# Altium integrated library STMicroelectronics STM32 F1.IntLib: 244 symbols (part 16 of 24)
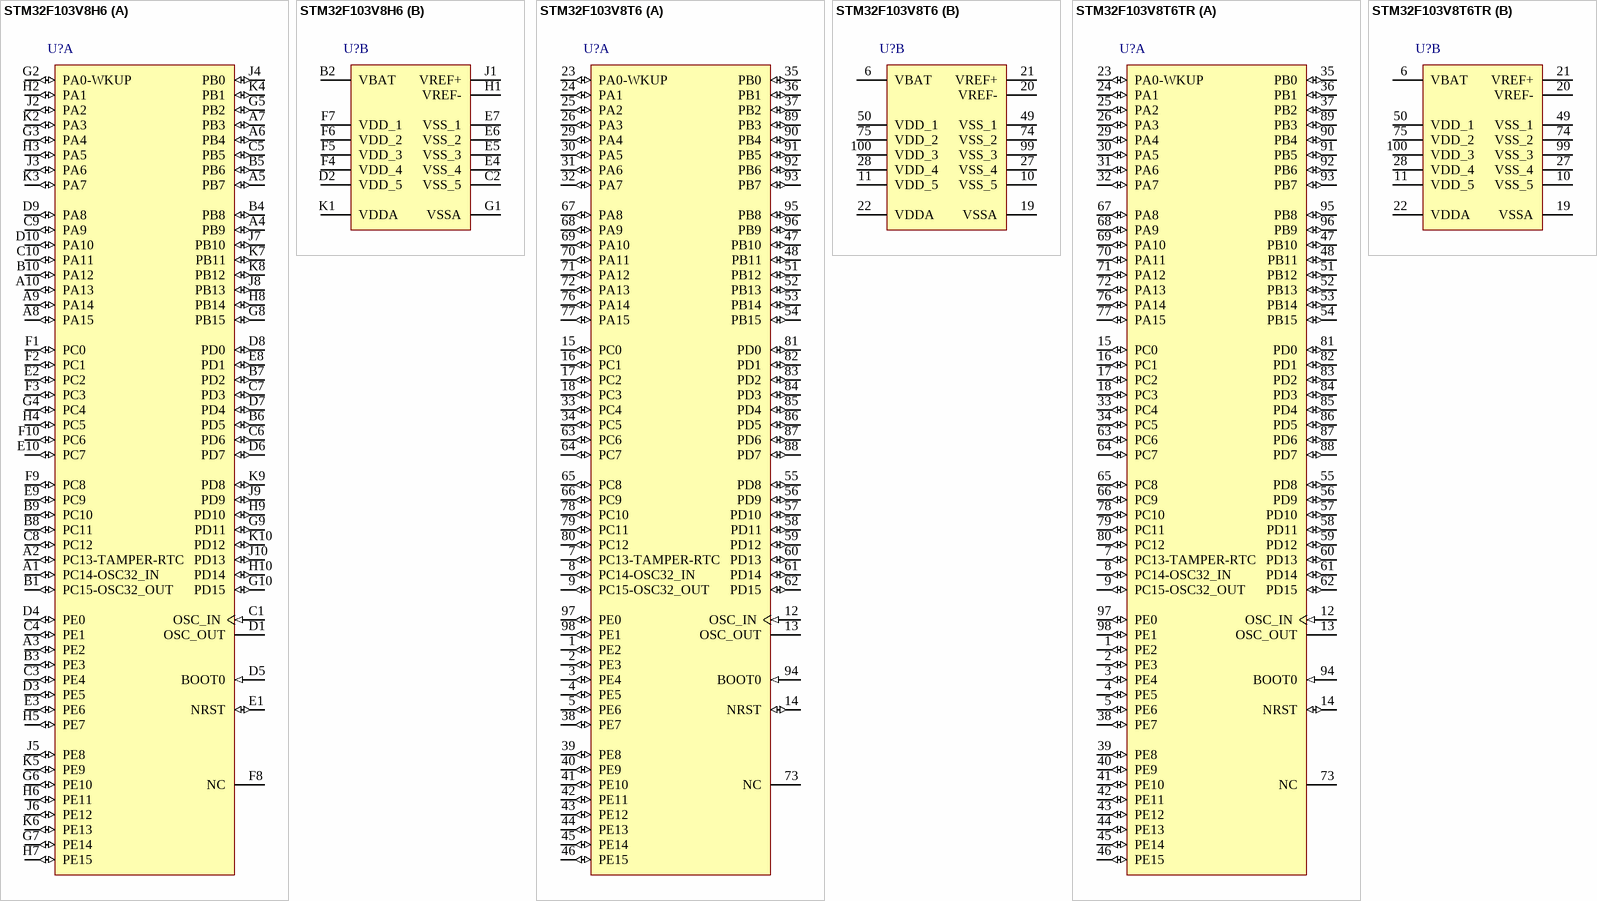
[diagram p57: symbols STM32F103V8H6 to STM32F103V8T6TR]

## STM32F103V8T6TR
designator U?
ARM Cortex-M3 32-bit MCU, 64 KB Flash, 20 KB Internal RAM, 80 I/Os, 100-pin LQFP, -40 to 85 degC, Tape and Reel; PartNumber: STM32F103V8T6TR; A/D Converter: 2x12-bit (16 channel); FLASH Size (Prog) (kB): 64; I/Os (High Current): 80; Internal RAM Size (kB): 20; Operating Frequency(F) (Processor speed) (MHz): 72; Supply Voltage(Vcc) min (V): 2; DatasheetVersion: Rev. 16; PackageVersion: Rev. 1, 06/2013; PackageReference: LQFP100; PackageDescription: 100-Pin Low Profile Quad Flat Package, 14 x 14 mm Body, 0.5 mm Pitch; Supplier 1: Digi-Key; Supplier Part Number 1: STM32F103V8T6TR-ND; Supplier 2: Newark; Supplier Part Number 2: 90R9227; Supplier 3: Mouser; Supplier Part Number 3: 511-STM32F103V8T6TR; Core: ARM Cortex-M3; Packing: Tape and Reel; Mounting Technology: Surface Mount; ComponentLink1Description: Manufacturer URL; ComponentLink1URL: http://www.st.com/web/en/home.html; ComponentLink2Description: Datasheet; ComponentLink2URL: http://www.st.com/st-web-ui/static/active/en/resource/technical/document/datasheet/CD00161566.pdf; ComponentLink3Description: Package Specification; ComponentLink3URL: http://www.st.com/st-web-ui/static/active/en/resource/technical/document/data_brief/DM00071938.pdf
footprint STM-LQFP100_N (Thin QFP, 100-Leads, Body 14x14mm, Pitch 0.5mm, IPC Medium Density)
footprint STM-LQFP100_L (Thin QFP, 100-Leads, Body 14x14mm, Pitch 0.5mm, IPC High Density)
footprint STM-LQFP100_M (Thin QFP, 100-Leads, Body 14x14mm, Pitch 0.5mm, IPC Low Density)
footprint STM-LQFP100_V (Thin QFP, 100-Leads, Body 14x14mm, Pitch 0.5mm, ST Recommended)
part A pins: 1 PE2 (io) "PE2/TRACECK", 2 PE3 (io) "PE3/TRACED0", 3 PE4 (io) "PE4/TRACED1", 4 PE5 (io) "PE5/TRACED2", 5 PE6 (io) "PE6/TRACED3", 7 PC13-TAMPER-RTC (io) "PC13-TAMPER-RTC/PC13/TAMPER-RTC", 8 PC14-OSC32_IN (io) "PC14-OSC32_IN/PC14/OSC32_IN", 9 PC15-OSC32_OUT (io) "PC15-OSC32_OUT/PC15/OSC32_OUT", 12 OSC_IN (in), 13 OSC_OUT, 14 NRST (io), 15 PC0 (io) "PC0/ADC12_IN10", 16 PC1 (io) "PC1/ADC12_IN11", 17 PC2 (io) "PC2/ADC12_IN12", 18 PC3 (io) "PC3/ADC12_IN13", 23 PA0-WKUP (io) "PA0-WKUP/PA0/WKUP/USART2_CTS/ADC12_IN0/TIM2_CH1_ETR", 24 PA1 (io) "PA1/USART2_RTS/ADC12_IN1/TIM2_CH2", 25 PA2 (io) "PA2/USART2_TX/ADC12_IN2/TIM2_CH3", 26 PA3 (io) "PA3/USART2_RX/ADC12_IN3/TIM2_CH4", 29 PA4 (io) "PA4/SPI1_NSS/USART2_CK/ADC12_IN4", 30 PA5 (io) "PA5/SPI1_SCK/ADC12_IN5", 31 PA6 (io) "PA6/SPI1_MISO/ADC12_IN6/TIM3_CH1/TIM1_BKIN", 32 PA7 (io) "PA7/SPI1_MOSI/ADC12_IN7/TIM3_CH2/TIM1_CH1N", 33 PC4 (io) "PC4/ADC12_IN14", 34 PC5 (io) "PC5/ADC12_IN15", 35 PB0 (io) "PB0/ADC12_IN8/TIM3_CH3/TIM1_CH2N", 36 PB1 (io) "PB1/ADC12_IN9/TIM3_CH4/TIM1_CH3N", 37 PB2 (io) "PB2/BOOT1", 38 PE7 (io) "PE7/TIM1_ETR", 39 PE8 (io) "PE8/TIM1_CH1N", 40 PE9 (io) "PE9/TIM1_CH1", 41 PE10 (io) "PE10/TIM1_CH2N", 42 PE11 (io) "PE11/TIM1_CH2", 43 PE12 (io) "PE12/TIM1_CH3N", 44 PE13 (io) "PE13/TIM1_CH3", 45 PE14 (io) "PE14/TIM1_CH4", 46 PE15 (io) "PE15/TIM1_BKIN", 47 PB10 (io) "PB10/I2C2_SCL/USART3_TX/TIM2_CH3", 48 PB11 (io) "PB11/I2C2_SDA/USART3_RX/TIM2_CH4", 51 PB12 (io) "PB12/SPI2_NSS/I2C2_SMBAl/USART3_CK/TIM1_BKIN", 52 PB13 (io) "PB13/SPI2_SCK/USART3_CTS/TIM1_CH1N", 53 PB14 (io) "PB14/SPI2_MISO/USART3_RTS/TIM1_CH2N", 54 PB15 (io) "PB15/SPI2_MOSI/TIM1_CH3N", 55 PD8 (io) "PD8/USART3_TX", 56 PD9 (io) "PD9/USART3_RX", 57 PD10 (io) "PD10/USART3_CK", 58 PD11 (io) "PD11/USART3_CTS", 59 PD12 (io) "PD12/TIM4_CH1/USART3_RTS", 60 PD13 (io) "PD13/TIM4_CH2", 61 PD14 (io) "PD14/TIM4_CH3", 62 PD15 (io) "PD15/TIM4_CH4", 63 PC6 (io) "PC6/TIM3_CH1", 64 PC7 (io) "PC7/TIM3_CH2", 65 PC8 (io) "PC8/TIM3_CH3", 66 PC9 (io) "PC9/TIM3_CH4", 67 PA8 (io) "PA8/USART1_CK/TIM1_CH1/MCO", 68 PA9 (io) "PA9/USART1_TX/TIM1_CH2", 69 PA10 (io) "PA10/USART1_RX/TIM1_CH3", 70 PA11 (io) "PA11/USART1_CTS/CANRX/USBDM/TIM1_CH4", 71 PA12 (io) "PA12/USART1_RTS/CANTX/USBDP/TIM1_ETR", 72 PA13 (io) "PA13/JTMS/SWDIO", 73 NC, 76 PA14 (io) "PA14/JTCK/SWCLK", 77 PA15 (io) "PA15/JTDI/TIM2_CH1_ETR/SPI1_NSS", 78 PC10 (io) "PC10/USART3_TX", 79 PC11 (io) "PC11/USART3_RX", 80 PC12 (io) "PC12/USART3_CK", 81 PD0 (io) "PD0/CANRX", 82 PD1 (io) "PD1/CANTX", 83 PD2 (io) "PD2/TIM3_ETR", 84 PD3 (io) "PD3/USART2_CTS", 85 PD4 (io) "PD4/USART2_RTS", 86 PD5 (io) "PD5/USART2_TX", 87 PD6 (io) "PD6/USART2_RX", 88 PD7 (io) "PD7/USART2_CK", 89 PB3 (io) "PB3/JTDO/TIM2_CH2/TRACESWO/SPI1_SCK", 90 PB4 (io) "PB4/NJTRST/TIM3_CH1/SPI1_MISO", 91 PB5 (io) "PB5/I2C1_SMBAI/TIM3_CH2/SPI1_MOSI", 92 PB6 (io) "PB6/I2C1_SCL/TIM4_CH1/USART1_TX", 93 PB7 (io) "PB7/I2C1_SDA/TIM4_CH2/USART1_RX", 94 BOOT0 (in), 95 PB8 (io) "PB8/TIM4_CH3/I2C1_SCL/CANRX", 96 PB9 (io) "PB9/TIM4_CH4/I2C1_SDA/CANTX", 97 PE0 (io) "PE0/TIM4_ETR", 98 PE1 (io)
part B pins: 6 VBAT (power), 10 VSS_5 (power), 11 VDD_5 (power), 19 VSSA (power), 20 VREF- (power), 21 VREF+ (power), 22 VDDA (power), 27 VSS_4 (power), 28 VDD_4 (power), 49 VSS_1 (power), 50 VDD_1 (power), 74 VSS_2 (power), 75 VDD_2 (power), 99 VSS_3 (power), 100 VDD_3 (power)

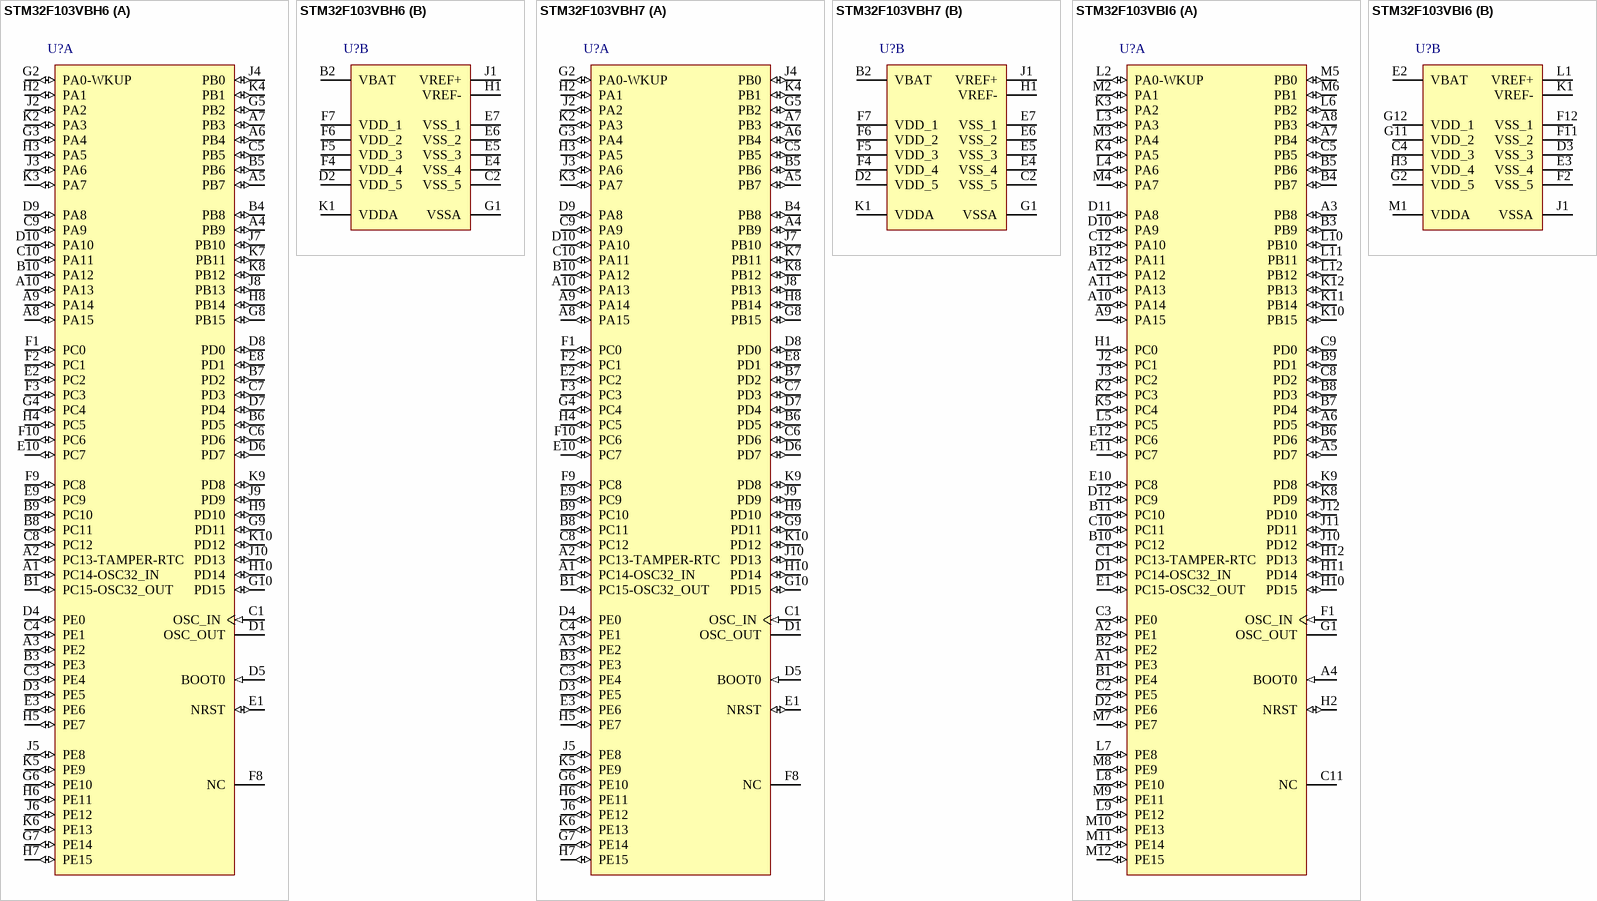
[diagram p25: symbols STM32F103VBH6 to STM32F103VBI6]

## STM32F103VBH6
designator U?
ARM Cortex-M3 32-bit MCU, 128 KB Flash, 20 KB Internal RAM, 80 I/Os, 100-pin LFBGA, -40 to 85 degC, Tray; PartNumber: STM32F103VBH6; A/D Converter: 2x12-bit (16 channel); FLASH Size (Prog) (kB): 128; I/Os (High Current): 80; Internal RAM Size (kB): 20; Operating Frequency(F) (Processor speed) (MHz): 72; Supply Voltage(Vcc) min (V): 2; DatasheetVersion: Rev. 16; PackageVersion: Rev. 8, 04/2011; PackageReference: LFBGA100; PackageDescription: 100-Ball Low Profile Fine Pitch BGA, 10 x 10 x 1.7 mm Body, 0.8 mm Pitch; Supplier 1: Digi-Key; Supplier Part Number 1: 497-6069-ND; Supplier 2: Farnell; Supplier Part Number 2: 2333178; Supplier 3: Newark; Supplier Part Number 3: 99W9797; Supplier 4: Newark; Supplier Part Number 4: 57P1250; Supplier 5: Mouser; Supplier Part Number 5: 511-STM32F103VBH6; Core: ARM Cortex-M3; Packing: Tray; Mounting Technology: Surface Mount; ComponentLink1Description: Manufacturer URL; ComponentLink1URL: http://www.st.com/web/en/home.html; ComponentLink2Description: Datasheet; ComponentLink2URL: http://www.st.com/st-web-ui/static/active/en/resource/technical/document/datasheet/CD00161566.pdf; ComponentLink3Description: Package Specification; ComponentLink3URL: http://www.st.com/st-web-ui/static/active/en/resource/technical/document/datasheet/CD00191185.pdf
footprint STM-LFBGA100 (BGA, 100-Balls, Body 10x10mm, Pitch 0.8mm)
part A pins: A1 PC14-OSC32_IN (io) "PC14-OSC32_IN/PC14/OSC32_IN", A2 PC13-TAMPER-RTC (io) "PC13-TAMPER-RTC/PC13/TAMPER-RTC", A3 PE2 (io) "PE2/TRACECK", A4 PB9 (io) "PB9/TIM4_CH4/I2C1_SDA/CANTX", A5 PB7 (io) "PB7/I2C1_SDA/TIM4_CH2/USART1_RX", A6 PB4 (io) "PB4/NJTRST/TIM3_CH1/SPI1_MISO", A7 PB3 (io) "PB3/JTDO/TIM2_CH2/TRACESWO/SPI1_SCK", A8 PA15 (io) "PA15/JTDI/TIM2_CH1_ETR/SPI1_NSS", A9 PA14 (io) "PA14/JTCK/SWCLK", A10 PA13 (io) "PA13/JTMS/SWDIO", B1 PC15-OSC32_OUT (io) "PC15-OSC32_OUT/PC15/OSC32_OUT", B3 PE3 (io) "PE3/TRACED0", B4 PB8 (io) "PB8/TIM4_CH3/I2C1_SCL/CANRX", B5 PB6 (io) "PB6/I2C1_SCL/TIM4_CH1/USART1_TX", B6 PD5 (io) "PD5/USART2_TX", B7 PD2 (io) "PD2/TIM3_ETR", B8 PC11 (io) "PC11/USART3_RX", B9 PC10 (io) "PC10/USART3_TX", B10 PA12 (io) "PA12/USART1_RTS/CANTX/USBDP/TIM1_ETR", C1 OSC_IN (in), C3 PE4 (io) "PE4/TRACED1", C4 PE1 (io), C5 PB5 (io) "PB5/I2C1_SMBAI/TIM3_CH2/SPI1_MOSI", C6 PD6 (io) "PD6/USART2_RX", C7 PD3 (io) "PD3/USART2_CTS", C8 PC12 (io) "PC12/USART3_CK", C9 PA9 (io) "PA9/USART1_TX/TIM1_CH2", C10 PA11 (io) "PA11/USART1_CTS/CANRX/USBDM/TIM1_CH4", D1 OSC_OUT, D3 PE5 (io) "PE5/TRACED2", D4 PE0 (io) "PE0/TIM4_ETR", D5 BOOT0 (in), D6 PD7 (io) "PD7/USART2_CK", D7 PD4 (io) "PD4/USART2_RTS", D8 PD0 (io) "PD0/CANRX", D9 PA8 (io) "PA8/USART1_CK/TIM1_CH1/MCO", D10 PA10 (io) "PA10/USART1_RX/TIM1_CH3", E1 NRST (io), E2 PC2 (io) "PC2/ADC12_IN12", E3 PE6 (io) "PE6/TRACED3", E8 PD1 (io) "PD1/CANTX", E9 PC9 (io) "PC9/TIM3_CH4", E10 PC7 (io) "PC7/TIM3_CH2", F1 PC0 (io) "PC0/ADC12_IN10", F2 PC1 (io) "PC1/ADC12_IN11", F3 PC3 (io) "PC3/ADC12_IN13", F8 NC, F9 PC8 (io) "PC8/TIM3_CH3", F10 PC6 (io) "PC6/TIM3_CH1", G2 PA0-WKUP (io) "PA0-WKUP/PA0/WKUP/USART2_CTS/ADC12_IN0/TIM2_CH1_ETR", G3 PA4 (io) "PA4/SPI1_NSS/USART2_CK/ADC12_IN4", G4 PC4 (io) "PC4/ADC12_IN14", G5 PB2 (io) "PB2/BOOT1", G6 PE10 (io) "PE10/TIM1_CH2N", G7 PE14 (io) "PE14/TIM1_CH4", G8 PB15 (io) "PB15/SPI2_MOSI/TIM1_CH3N", G9 PD11 (io) "PD11/USART3_CTS", G10 PD15 (io) "PD15/TIM4_CH4", H2 PA1 (io) "PA1/USART2_RTS/ADC12_IN1/TIM2_CH2", H3 PA5 (io) "PA5/SPI1_SCK/ADC12_IN5", H4 PC5 (io) "PC5/ADC12_IN15", H5 PE7 (io) "PE7/TIM1_ETR", H6 PE11 (io) "PE11/TIM1_CH2", H7 PE15 (io) "PE15/TIM1_BKIN", H8 PB14 (io) "PB14/SPI2_MISO/USART3_RTS/TIM1_CH2N", H9 PD10 (io) "PD10/USART3_CK", H10 PD14 (io) "PD14/TIM4_CH3", J2 PA2 (io) "PA2/USART2_TX/ADC12_IN2/TIM2_CH3", J3 PA6 (io) "PA6/SPI1_MISO/ADC12_IN6/TIM3_CH1/TIM1_BKIN", J4 PB0 (io) "PB0/ADC12_IN8/TIM3_CH3/TIM1_CH2N", J5 PE8 (io) "PE8/TIM1_CH1N", J6 PE12 (io) "PE12/TIM1_CH3N", J7 PB10 (io) "PB10/I2C2_SCL/USART3_TX/TIM2_CH3", J8 PB13 (io) "PB13/SPI2_SCK/USART3_CTS/TIM1_CH1N", J9 PD9 (io) "PD9/USART3_RX", J10 PD13 (io) "PD13/TIM4_CH2", K2 PA3 (io) "PA3/USART2_RX/ADC12_IN3/TIM2_CH4", K3 PA7 (io) "PA7/SPI1_MOSI/ADC12_IN7/TIM3_CH2/TIM1_CH1N", K4 PB1 (io) "PB1/ADC12_IN9/TIM3_CH4/TIM1_CH3N", K5 PE9 (io) "PE9/TIM1_CH1", K6 PE13 (io) "PE13/TIM1_CH3", K7 PB11 (io) "PB11/I2C2_SDA/USART3_RX/TIM2_CH4", K8 PB12 (io) "PB12/SPI2_NSS/I2C2_SMBAl/USART3_CK/TIM1_BKIN", K9 PD8 (io) "PD8/USART3_TX", K10 PD12 (io) "PD12/TIM4_CH1/USART3_RTS"
part B pins: B2 VBAT (power), C2 VSS_5 (power), D2 VDD_5 (power), E4 VSS_4 (power), E5 VSS_3 (power), E6 VSS_2 (power), E7 VSS_1 (power), F4 VDD_4 (power), F5 VDD_3 (power), F6 VDD_2 (power), F7 VDD_1 (power), G1 VSSA (power), H1 VREF- (power), J1 VREF+ (power), K1 VDDA (power)

## STM32F103VBH7
designator U?
ARM Cortex-M3 32-bit MCU, 128 KB Flash, 20 KB Internal RAM, 80 I/Os, 100-pin LFBGA, -40 to 105 degC, Tray; PartNumber: STM32F103VBH7; A/D Converter: 2x12-bit (16 channel); FLASH Size (Prog) (kB): 128; I/Os (High Current): 80; Internal RAM Size (kB): 20; Operating Frequency(F) (Processor speed) (MHz): 72; Supply Voltage(Vcc) min (V): 2; DatasheetVersion: Rev. 16; PackageVersion: Rev. 8, 04/2011; PackageReference: LFBGA100; PackageDescription: 100-Ball Low Profile Fine Pitch BGA, 10 x 10 x 1.7 mm Body, 0.8 mm Pitch; Supplier 1: Digi-Key; Supplier Part Number 1: 497-11535-ND; Supplier 2: Farnell; Supplier Part Number 2: 2333179; Supplier 3: Newark; Supplier Part Number 3: 99W9798; Supplier 4: Mouser; Supplier Part Number 4: 511-STM32F103VBH7; Core: ARM Cortex-M3; Packing: Tray; Mounting Technology: Surface Mount; ComponentLink1Description: Manufacturer URL; ComponentLink1URL: http://www.st.com/web/en/home.html; ComponentLink2Description: Datasheet; ComponentLink2URL: http://www.st.com/st-web-ui/static/active/en/resource/technical/document/datasheet/CD00161566.pdf; ComponentLink3Description: Package Specification; ComponentLink3URL: http://www.st.com/st-web-ui/static/active/en/resource/technical/document/datasheet/CD00191185.pdf
footprint STM-LFBGA100 (BGA, 100-Balls, Body 10x10mm, Pitch 0.8mm)
part A pins: A1 PC14-OSC32_IN (io) "PC14-OSC32_IN/PC14/OSC32_IN", A2 PC13-TAMPER-RTC (io) "PC13-TAMPER-RTC/PC13/TAMPER-RTC", A3 PE2 (io) "PE2/TRACECK", A4 PB9 (io) "PB9/TIM4_CH4/I2C1_SDA/CANTX", A5 PB7 (io) "PB7/I2C1_SDA/TIM4_CH2/USART1_RX", A6 PB4 (io) "PB4/NJTRST/TIM3_CH1/SPI1_MISO", A7 PB3 (io) "PB3/JTDO/TIM2_CH2/TRACESWO/SPI1_SCK", A8 PA15 (io) "PA15/JTDI/TIM2_CH1_ETR/SPI1_NSS", A9 PA14 (io) "PA14/JTCK/SWCLK", A10 PA13 (io) "PA13/JTMS/SWDIO", B1 PC15-OSC32_OUT (io) "PC15-OSC32_OUT/PC15/OSC32_OUT", B3 PE3 (io) "PE3/TRACED0", B4 PB8 (io) "PB8/TIM4_CH3/I2C1_SCL/CANRX", B5 PB6 (io) "PB6/I2C1_SCL/TIM4_CH1/USART1_TX", B6 PD5 (io) "PD5/USART2_TX", B7 PD2 (io) "PD2/TIM3_ETR", B8 PC11 (io) "PC11/USART3_RX", B9 PC10 (io) "PC10/USART3_TX", B10 PA12 (io) "PA12/USART1_RTS/CANTX/USBDP/TIM1_ETR", C1 OSC_IN (in), C3 PE4 (io) "PE4/TRACED1", C4 PE1 (io), C5 PB5 (io) "PB5/I2C1_SMBAI/TIM3_CH2/SPI1_MOSI", C6 PD6 (io) "PD6/USART2_RX", C7 PD3 (io) "PD3/USART2_CTS", C8 PC12 (io) "PC12/USART3_CK", C9 PA9 (io) "PA9/USART1_TX/TIM1_CH2", C10 PA11 (io) "PA11/USART1_CTS/CANRX/USBDM/TIM1_CH4", D1 OSC_OUT, D3 PE5 (io) "PE5/TRACED2", D4 PE0 (io) "PE0/TIM4_ETR", D5 BOOT0 (in), D6 PD7 (io) "PD7/USART2_CK", D7 PD4 (io) "PD4/USART2_RTS", D8 PD0 (io) "PD0/CANRX", D9 PA8 (io) "PA8/USART1_CK/TIM1_CH1/MCO", D10 PA10 (io) "PA10/USART1_RX/TIM1_CH3", E1 NRST (io), E2 PC2 (io) "PC2/ADC12_IN12", E3 PE6 (io) "PE6/TRACED3", E8 PD1 (io) "PD1/CANTX", E9 PC9 (io) "PC9/TIM3_CH4", E10 PC7 (io) "PC7/TIM3_CH2", F1 PC0 (io) "PC0/ADC12_IN10", F2 PC1 (io) "PC1/ADC12_IN11", F3 PC3 (io) "PC3/ADC12_IN13", F8 NC, F9 PC8 (io) "PC8/TIM3_CH3", F10 PC6 (io) "PC6/TIM3_CH1", G2 PA0-WKUP (io) "PA0-WKUP/PA0/WKUP/USART2_CTS/ADC12_IN0/TIM2_CH1_ETR", G3 PA4 (io) "PA4/SPI1_NSS/USART2_CK/ADC12_IN4", G4 PC4 (io) "PC4/ADC12_IN14", G5 PB2 (io) "PB2/BOOT1", G6 PE10 (io) "PE10/TIM1_CH2N", G7 PE14 (io) "PE14/TIM1_CH4", G8 PB15 (io) "PB15/SPI2_MOSI/TIM1_CH3N", G9 PD11 (io) "PD11/USART3_CTS", G10 PD15 (io) "PD15/TIM4_CH4", H2 PA1 (io) "PA1/USART2_RTS/ADC12_IN1/TIM2_CH2", H3 PA5 (io) "PA5/SPI1_SCK/ADC12_IN5", H4 PC5 (io) "PC5/ADC12_IN15", H5 PE7 (io) "PE7/TIM1_ETR", H6 PE11 (io) "PE11/TIM1_CH2", H7 PE15 (io) "PE15/TIM1_BKIN", H8 PB14 (io) "PB14/SPI2_MISO/USART3_RTS/TIM1_CH2N", H9 PD10 (io) "PD10/USART3_CK", H10 PD14 (io) "PD14/TIM4_CH3", J2 PA2 (io) "PA2/USART2_TX/ADC12_IN2/TIM2_CH3", J3 PA6 (io) "PA6/SPI1_MISO/ADC12_IN6/TIM3_CH1/TIM1_BKIN", J4 PB0 (io) "PB0/ADC12_IN8/TIM3_CH3/TIM1_CH2N", J5 PE8 (io) "PE8/TIM1_CH1N", J6 PE12 (io) "PE12/TIM1_CH3N", J7 PB10 (io) "PB10/I2C2_SCL/USART3_TX/TIM2_CH3", J8 PB13 (io) "PB13/SPI2_SCK/USART3_CTS/TIM1_CH1N", J9 PD9 (io) "PD9/USART3_RX", J10 PD13 (io) "PD13/TIM4_CH2", K2 PA3 (io) "PA3/USART2_RX/ADC12_IN3/TIM2_CH4", K3 PA7 (io) "PA7/SPI1_MOSI/ADC12_IN7/TIM3_CH2/TIM1_CH1N", K4 PB1 (io) "PB1/ADC12_IN9/TIM3_CH4/TIM1_CH3N", K5 PE9 (io) "PE9/TIM1_CH1", K6 PE13 (io) "PE13/TIM1_CH3", K7 PB11 (io) "PB11/I2C2_SDA/USART3_RX/TIM2_CH4", K8 PB12 (io) "PB12/SPI2_NSS/I2C2_SMBAl/USART3_CK/TIM1_BKIN", K9 PD8 (io) "PD8/USART3_TX", K10 PD12 (io) "PD12/TIM4_CH1/USART3_RTS"
part B pins: B2 VBAT (power), C2 VSS_5 (power), D2 VDD_5 (power), E4 VSS_4 (power), E5 VSS_3 (power), E6 VSS_2 (power), E7 VSS_1 (power), F4 VDD_4 (power), F5 VDD_3 (power), F6 VDD_2 (power), F7 VDD_1 (power), G1 VSSA (power), H1 VREF- (power), J1 VREF+ (power), K1 VDDA (power)

## STM32F103VBI6
designator U?
ARM Cortex-M3 32-bit MCU, 128 KB Flash, 20 KB Internal RAM, 80 I/Os, 100-pin UFBGA, -40 to 85 degC, Tray; PartNumber: STM32F103VBI6; A/D Converter: 2x12-bit (16 channel); FLASH Size (Prog) (kB): 128; I/Os (High Current): 80; Internal RAM Size (kB): 20; Operating Frequency(F) (Processor speed) (MHz): 72; Supply Voltage(Vcc) min (V): 2; DatasheetVersion: Rev. 16; PackageVersion: Rev. 8, 02/2013; PackageReference: UFBGA100; PackageDescription: 100-Ball Ultra Thin Fine Pitch Ball Grid Array, 7 x 7 x 0.6 mm Body, 0.5 mm Pitch; Supplier 1: Mouser; Supplier Part Number 1: N/A; Core: ARM Cortex-M3; Packing: Tray; Mounting Technology: Surface Mount; ComponentLink1Description: Manufacturer URL; ComponentLink1URL: http://www.st.com/web/en/home.html; ComponentLink2Description: Datasheet; ComponentLink2URL: http://www.st.com/st-web-ui/static/active/en/resource/technical/document/datasheet/CD00161566.pdf; ComponentLink3Description: Package Specification; ComponentLink3URL: http://www.st.com/st-web-ui/static/active/en/resource/technical/document/datasheet/CD00277537.pdf
footprint STM-UFBGA100 (BGA, 100-Balls, Body 7x7mm, Pitch 0.5mm)
part A pins: A1 PE3 (io) "PE3/TRACED0", A2 PE1 (io), A3 PB8 (io) "PB8/TIM4_CH3/I2C1_SCL/CANRX", A4 BOOT0 (in), A5 PD7 (io) "PD7/USART2_CK", A6 PD5 (io) "PD5/USART2_TX", A7 PB4 (io) "PB4/NJTRST/TIM3_CH1/SPI1_MISO", A8 PB3 (io) "PB3/JTDO/TIM2_CH2/TRACESWO/SPI1_SCK", A9 PA15 (io) "PA15/JTDI/TIM2_CH1_ETR/SPI1_NSS", A10 PA14 (io) "PA14/JTCK/SWCLK", A11 PA13 (io) "PA13/JTMS/SWDIO", A12 PA12 (io) "PA12/USART1_RTS/CANTX/USBDP/TIM1_ETR", B1 PE4 (io) "PE4/TRACED1", B2 PE2 (io) "PE2/TRACECK", B3 PB9 (io) "PB9/TIM4_CH4/I2C1_SDA/CANTX", B4 PB7 (io) "PB7/I2C1_SDA/TIM4_CH2/USART1_RX", B5 PB6 (io) "PB6/I2C1_SCL/TIM4_CH1/USART1_TX", B6 PD6 (io) "PD6/USART2_RX", B7 PD4 (io) "PD4/USART2_RTS", B8 PD3 (io) "PD3/USART2_CTS", B9 PD1 (io) "PD1/CANTX", B10 PC12 (io) "PC12/USART3_CK", B11 PC10 (io) "PC10/USART3_TX", B12 PA11 (io) "PA11/USART1_CTS/CANRX/USBDM/TIM1_CH4", C1 PC13-TAMPER-RTC (io) "PC13-TAMPER-RTC/PC13/TAMPER-RTC", C2 PE5 (io) "PE5/TRACED2", C3 PE0 (io) "PE0/TIM4_ETR", C5 PB5 (io) "PB5/I2C1_SMBAI/TIM3_CH2/SPI1_MOSI", C8 PD2 (io) "PD2/TIM3_ETR", C9 PD0 (io) "PD0/CANRX", C10 PC11 (io) "PC11/USART3_RX", C11 NC, C12 PA10 (io) "PA10/USART1_RX/TIM1_CH3", D1 PC14-OSC32_IN (io) "PC14-OSC32_IN/PC14/OSC32_IN", D2 PE6 (io) "PE6/TRACED3", D10 PA9 (io) "PA9/USART1_TX/TIM1_CH2", D11 PA8 (io) "PA8/USART1_CK/TIM1_CH1/MCO", D12 PC9 (io) "PC9/TIM3_CH4", E1 PC15-OSC32_OUT (io) "PC15-OSC32_OUT/PC15/OSC32_OUT", E10 PC8 (io) "PC8/TIM3_CH3", E11 PC7 (io) "PC7/TIM3_CH2", E12 PC6 (io) "PC6/TIM3_CH1", F1 OSC_IN (in), G1 OSC_OUT, H1 PC0 (io) "PC0/ADC12_IN10", H2 NRST (io), H10 PD15 (io) "PD15/TIM4_CH4", H11 PD14 (io) "PD14/TIM4_CH3", H12 PD13 (io) "PD13/TIM4_CH2", J2 PC1 (io) "PC1/ADC12_IN11", J3 PC2 (io) "PC2/ADC12_IN12", J10 PD12 (io) "PD12/TIM4_CH1/USART3_RTS", J11 PD11 (io) "PD11/USART3_CTS", J12 PD10 (io) "PD10/USART3_CK", K2 PC3 (io) "PC3/ADC12_IN13", K3 PA2 (io) "PA2/USART2_TX/ADC12_IN2/TIM2_CH3", K4 PA5 (io) "PA5/SPI1_SCK/ADC12_IN5", K5 PC4 (io) "PC4/ADC12_IN14", K8 PD9 (io) "PD9/USART3_RX", K9 PD8 (io) "PD8/USART3_TX", K10 PB15 (io) "PB15/SPI2_MOSI/TIM1_CH3N", K11 PB14 (io) "PB14/SPI2_MISO/USART3_RTS/TIM1_CH2N", K12 PB13 (io) "PB13/SPI2_SCK/USART3_CTS/TIM1_CH1N", L2 PA0-WKUP (io) "PA0-WKUP/PA0/WKUP/USART2_CTS/ADC12_IN0/TIM2_CH1_ETR", L3 PA3 (io) "PA3/USART2_RX/ADC12_IN3/TIM2_CH4", L4 PA6 (io) "PA6/SPI1_MISO/ADC12_IN6/TIM3_CH1/TIM1_BKIN", L5 PC5 (io) "PC5/ADC12_IN15", L6 PB2 (io) "PB2/BOOT1", L7 PE8 (io) "PE8/TIM1_CH1N", L8 PE10 (io) "PE10/TIM1_CH2N", L9 PE12 (io) "PE12/TIM1_CH3N", L10 PB10 (io) "PB10/I2C2_SCL/USART3_TX/TIM2_CH3", L11 PB11 (io) "PB11/I2C2_SDA/USART3_RX/TIM2_CH4", L12 PB12 (io) "PB12/SPI2_NSS/I2C2_SMBAl/USART3_CK/TIM1_BKIN", M2 PA1 (io) "PA1/USART2_RTS/ADC12_IN1/TIM2_CH2", M3 PA4 (io) "PA4/SPI1_NSS/USART2_CK/ADC12_IN4", M4 PA7 (io) "PA7/SPI1_MOSI/ADC12_IN7/TIM3_CH2/TIM1_CH1N", M5 PB0 (io) "PB0/ADC12_IN8/TIM3_CH3/TIM1_CH2N", M6 PB1 (io) "PB1/ADC12_IN9/TIM3_CH4/TIM1_CH3N", M7 PE7 (io) "PE7/TIM1_ETR", M8 PE9 (io) "PE9/TIM1_CH1", M9 PE11 (io) "PE11/TIM1_CH2", M10 PE13 (io) "PE13/TIM1_CH3", M11 PE14 (io) "PE14/TIM1_CH4", M12 PE15 (io) "PE15/TIM1_BKIN"
part B pins: C4 VDD_3 (power), D3 VSS_3 (power), E2 VBAT (power), E3 VSS_4 (power), F2 VSS_5 (power), F11 VSS_2 (power), F12 VSS_1 (power), G2 VDD_5 (power), G11 VDD_2 (power), G12 VDD_1 (power), H3 VDD_4 (power), J1 VSSA (power), K1 VREF- (power), L1 VREF+ (power), M1 VDDA (power)

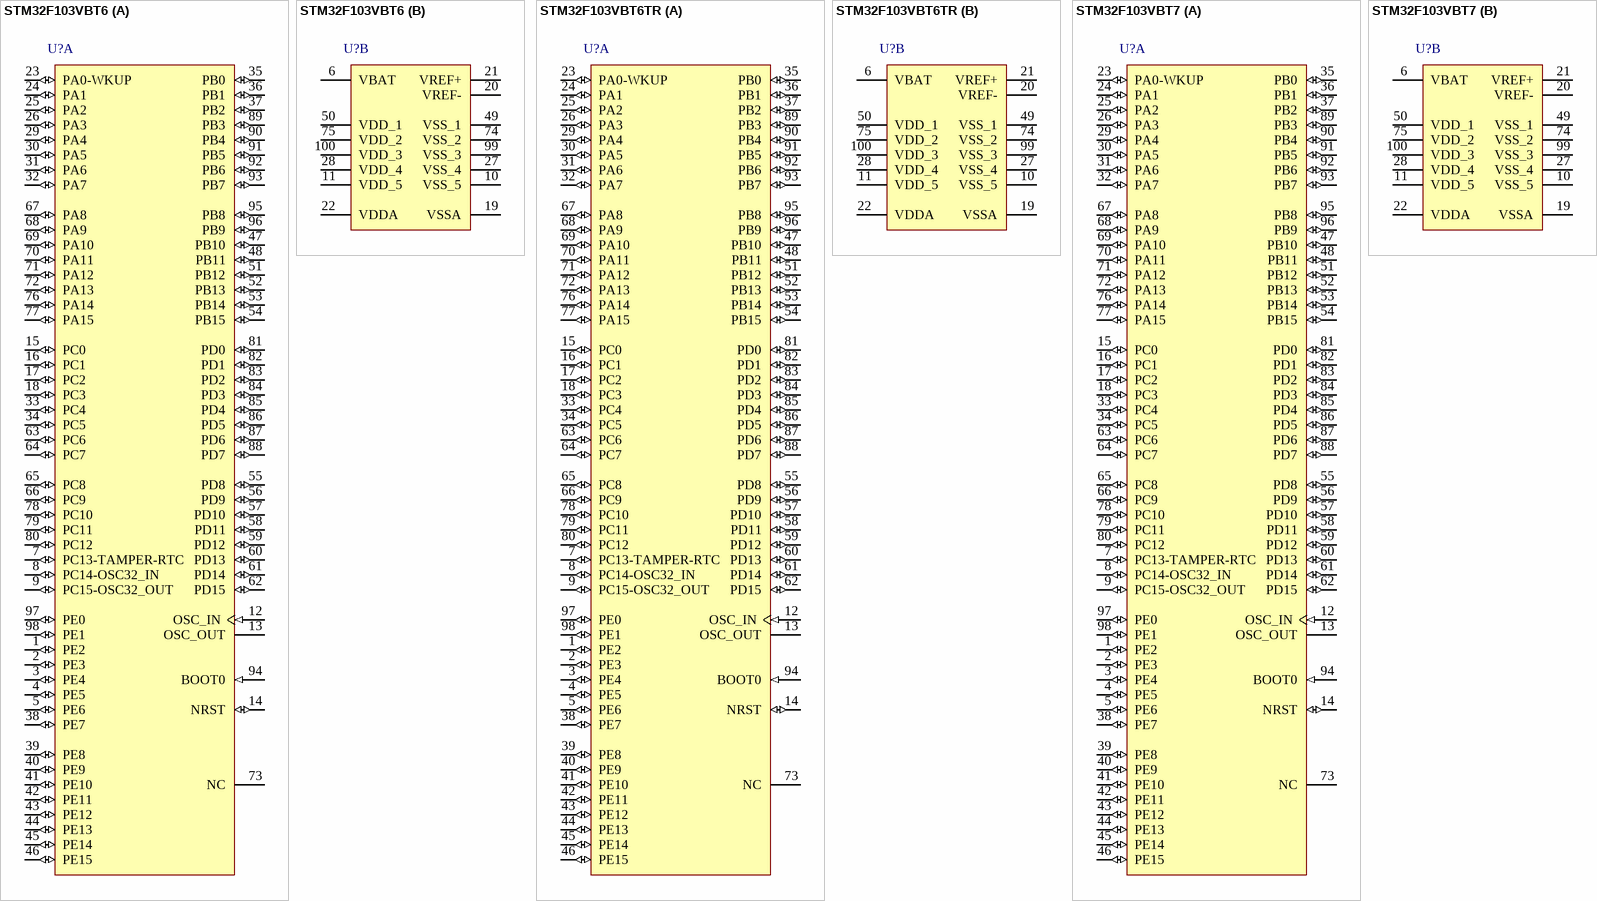
[diagram p26: symbols STM32F103VBT6 to STM32F103VBT7]

## STM32F103VBT6
designator U?
ARM Cortex-M3 32-bit MCU, 128 KB Flash, 20 KB Internal RAM, 80 I/Os, 100-pin LQFP, -40 to 85 degC, Tray; PartNumber: STM32F103VBT6; A/D Converter: 2x12-bit (16 channel); FLASH Size (Prog) (kB): 128; I/Os (High Current): 80; Internal RAM Size (kB): 20; Operating Frequency(F) (Processor speed) (MHz): 72; Supply Voltage(Vcc) min (V): 2; DatasheetVersion: Rev. 16; PackageVersion: Rev. 1, 06/2013; PackageReference: LQFP100; PackageDescription: 100-Pin Low Profile Quad Flat Package, 14 x 14 mm Body, 0.5 mm Pitch; Supplier 1: Digi-Key; Supplier Part Number 1: 497-6070-ND; Supplier 2: Farnell; Supplier Part Number 2: 1447641; Supplier 3: Newark; Supplier Part Number 3: 57P1252; Supplier 4: Mouser; Supplier Part Number 4: 511-STM32F103VBT6; Core: ARM Cortex-M3; Packing: Tray; Mounting Technology: Surface Mount; ComponentLink1Description: Manufacturer URL; ComponentLink1URL: http://www.st.com/web/en/home.html; ComponentLink2Description: Datasheet; ComponentLink2URL: http://www.st.com/st-web-ui/static/active/en/resource/technical/document/datasheet/CD00161566.pdf; ComponentLink3Description: Package Specification; ComponentLink3URL: http://www.st.com/st-web-ui/static/active/en/resource/technical/document/data_brief/DM00071938.pdf
footprint STM-LQFP100_N (Thin QFP, 100-Leads, Body 14x14mm, Pitch 0.5mm, IPC Medium Density)
footprint STM-LQFP100_L (Thin QFP, 100-Leads, Body 14x14mm, Pitch 0.5mm, IPC High Density)
footprint STM-LQFP100_M (Thin QFP, 100-Leads, Body 14x14mm, Pitch 0.5mm, IPC Low Density)
footprint STM-LQFP100_V (Thin QFP, 100-Leads, Body 14x14mm, Pitch 0.5mm, ST Recommended)
part A pins: 1 PE2 (io) "PE2/TRACECK", 2 PE3 (io) "PE3/TRACED0", 3 PE4 (io) "PE4/TRACED1", 4 PE5 (io) "PE5/TRACED2", 5 PE6 (io) "PE6/TRACED3", 7 PC13-TAMPER-RTC (io) "PC13-TAMPER-RTC/PC13/TAMPER-RTC", 8 PC14-OSC32_IN (io) "PC14-OSC32_IN/PC14/OSC32_IN", 9 PC15-OSC32_OUT (io) "PC15-OSC32_OUT/PC15/OSC32_OUT", 12 OSC_IN (in), 13 OSC_OUT, 14 NRST (io), 15 PC0 (io) "PC0/ADC12_IN10", 16 PC1 (io) "PC1/ADC12_IN11", 17 PC2 (io) "PC2/ADC12_IN12", 18 PC3 (io) "PC3/ADC12_IN13", 23 PA0-WKUP (io) "PA0-WKUP/PA0/WKUP/USART2_CTS/ADC12_IN0/TIM2_CH1_ETR", 24 PA1 (io) "PA1/USART2_RTS/ADC12_IN1/TIM2_CH2", 25 PA2 (io) "PA2/USART2_TX/ADC12_IN2/TIM2_CH3", 26 PA3 (io) "PA3/USART2_RX/ADC12_IN3/TIM2_CH4", 29 PA4 (io) "PA4/SPI1_NSS/USART2_CK/ADC12_IN4", 30 PA5 (io) "PA5/SPI1_SCK/ADC12_IN5", 31 PA6 (io) "PA6/SPI1_MISO/ADC12_IN6/TIM3_CH1/TIM1_BKIN", 32 PA7 (io) "PA7/SPI1_MOSI/ADC12_IN7/TIM3_CH2/TIM1_CH1N", 33 PC4 (io) "PC4/ADC12_IN14", 34 PC5 (io) "PC5/ADC12_IN15", 35 PB0 (io) "PB0/ADC12_IN8/TIM3_CH3/TIM1_CH2N", 36 PB1 (io) "PB1/ADC12_IN9/TIM3_CH4/TIM1_CH3N", 37 PB2 (io) "PB2/BOOT1", 38 PE7 (io) "PE7/TIM1_ETR", 39 PE8 (io) "PE8/TIM1_CH1N", 40 PE9 (io) "PE9/TIM1_CH1", 41 PE10 (io) "PE10/TIM1_CH2N", 42 PE11 (io) "PE11/TIM1_CH2", 43 PE12 (io) "PE12/TIM1_CH3N", 44 PE13 (io) "PE13/TIM1_CH3", 45 PE14 (io) "PE14/TIM1_CH4", 46 PE15 (io) "PE15/TIM1_BKIN", 47 PB10 (io) "PB10/I2C2_SCL/USART3_TX/TIM2_CH3", 48 PB11 (io) "PB11/I2C2_SDA/USART3_RX/TIM2_CH4", 51 PB12 (io) "PB12/SPI2_NSS/I2C2_SMBAl/USART3_CK/TIM1_BKIN", 52 PB13 (io) "PB13/SPI2_SCK/USART3_CTS/TIM1_CH1N", 53 PB14 (io) "PB14/SPI2_MISO/USART3_RTS/TIM1_CH2N", 54 PB15 (io) "PB15/SPI2_MOSI/TIM1_CH3N", 55 PD8 (io) "PD8/USART3_TX", 56 PD9 (io) "PD9/USART3_RX", 57 PD10 (io) "PD10/USART3_CK", 58 PD11 (io) "PD11/USART3_CTS", 59 PD12 (io) "PD12/TIM4_CH1/USART3_RTS", 60 PD13 (io) "PD13/TIM4_CH2", 61 PD14 (io) "PD14/TIM4_CH3", 62 PD15 (io) "PD15/TIM4_CH4", 63 PC6 (io) "PC6/TIM3_CH1", 64 PC7 (io) "PC7/TIM3_CH2", 65 PC8 (io) "PC8/TIM3_CH3", 66 PC9 (io) "PC9/TIM3_CH4", 67 PA8 (io) "PA8/USART1_CK/TIM1_CH1/MCO", 68 PA9 (io) "PA9/USART1_TX/TIM1_CH2", 69 PA10 (io) "PA10/USART1_RX/TIM1_CH3", 70 PA11 (io) "PA11/USART1_CTS/CANRX/USBDM/TIM1_CH4", 71 PA12 (io) "PA12/USART1_RTS/CANTX/USBDP/TIM1_ETR", 72 PA13 (io) "PA13/JTMS/SWDIO", 73 NC, 76 PA14 (io) "PA14/JTCK/SWCLK", 77 PA15 (io) "PA15/JTDI/TIM2_CH1_ETR/SPI1_NSS", 78 PC10 (io) "PC10/USART3_TX", 79 PC11 (io) "PC11/USART3_RX", 80 PC12 (io) "PC12/USART3_CK", 81 PD0 (io) "PD0/CANRX", 82 PD1 (io) "PD1/CANTX", 83 PD2 (io) "PD2/TIM3_ETR", 84 PD3 (io) "PD3/USART2_CTS", 85 PD4 (io) "PD4/USART2_RTS", 86 PD5 (io) "PD5/USART2_TX", 87 PD6 (io) "PD6/USART2_RX", 88 PD7 (io) "PD7/USART2_CK", 89 PB3 (io) "PB3/JTDO/TIM2_CH2/TRACESWO/SPI1_SCK", 90 PB4 (io) "PB4/NJTRST/TIM3_CH1/SPI1_MISO", 91 PB5 (io) "PB5/I2C1_SMBAI/TIM3_CH2/SPI1_MOSI", 92 PB6 (io) "PB6/I2C1_SCL/TIM4_CH1/USART1_TX", 93 PB7 (io) "PB7/I2C1_SDA/TIM4_CH2/USART1_RX", 94 BOOT0 (in), 95 PB8 (io) "PB8/TIM4_CH3/I2C1_SCL/CANRX", 96 PB9 (io) "PB9/TIM4_CH4/I2C1_SDA/CANTX", 97 PE0 (io) "PE0/TIM4_ETR", 98 PE1 (io)
part B pins: 6 VBAT (power), 10 VSS_5 (power), 11 VDD_5 (power), 19 VSSA (power), 20 VREF- (power), 21 VREF+ (power), 22 VDDA (power), 27 VSS_4 (power), 28 VDD_4 (power), 49 VSS_1 (power), 50 VDD_1 (power), 74 VSS_2 (power), 75 VDD_2 (power), 99 VSS_3 (power), 100 VDD_3 (power)

## STM32F103VBT6TR
designator U?
ARM Cortex-M3 32-bit MCU, 128 KB Flash, 20 KB Internal RAM, 80 I/Os, 100-pin LQFP, -40 to 85 degC, Tape and Reel; PartNumber: STM32F103VBT6TR; A/D Converter: 2x12-bit (16 channel); FLASH Size (Prog) (kB): 128; I/Os (High Current): 80; Internal RAM Size (kB): 20; Operating Frequency(F) (Processor speed) (MHz): 72; Supply Voltage(Vcc) min (V): 2; DatasheetVersion: Rev. 16; PackageVersion: Rev. 1, 06/2013; PackageReference: LQFP100; PackageDescription: 100-Pin Low Profile Quad Flat Package, 14 x 14 mm Body, 0.5 mm Pitch; Supplier 1: Digi-Key; Supplier Part Number 1: STM32F103VBT6TR-ND; Supplier 2: Mouser; Supplier Part Number 2: 511-STM32F103VBT6TR; Core: ARM Cortex-M3; Packing: Tape and Reel; Mounting Technology: Surface Mount; ComponentLink1Description: Manufacturer URL; ComponentLink1URL: http://www.st.com/web/en/home.html; ComponentLink2Description: Datasheet; ComponentLink2URL: http://www.st.com/st-web-ui/static/active/en/resource/technical/document/datasheet/CD00161566.pdf; ComponentLink3Description: Package Specification; ComponentLink3URL: http://www.st.com/st-web-ui/static/active/en/resource/technical/document/data_brief/DM00071938.pdf
footprint STM-LQFP100_N (Thin QFP, 100-Leads, Body 14x14mm, Pitch 0.5mm, IPC Medium Density)
footprint STM-LQFP100_L (Thin QFP, 100-Leads, Body 14x14mm, Pitch 0.5mm, IPC High Density)
footprint STM-LQFP100_M (Thin QFP, 100-Leads, Body 14x14mm, Pitch 0.5mm, IPC Low Density)
footprint STM-LQFP100_V (Thin QFP, 100-Leads, Body 14x14mm, Pitch 0.5mm, ST Recommended)
part A pins: 1 PE2 (io) "PE2/TRACECK", 2 PE3 (io) "PE3/TRACED0", 3 PE4 (io) "PE4/TRACED1", 4 PE5 (io) "PE5/TRACED2", 5 PE6 (io) "PE6/TRACED3", 7 PC13-TAMPER-RTC (io) "PC13-TAMPER-RTC/PC13/TAMPER-RTC", 8 PC14-OSC32_IN (io) "PC14-OSC32_IN/PC14/OSC32_IN", 9 PC15-OSC32_OUT (io) "PC15-OSC32_OUT/PC15/OSC32_OUT", 12 OSC_IN (in), 13 OSC_OUT, 14 NRST (io), 15 PC0 (io) "PC0/ADC12_IN10", 16 PC1 (io) "PC1/ADC12_IN11", 17 PC2 (io) "PC2/ADC12_IN12", 18 PC3 (io) "PC3/ADC12_IN13", 23 PA0-WKUP (io) "PA0-WKUP/PA0/WKUP/USART2_CTS/ADC12_IN0/TIM2_CH1_ETR", 24 PA1 (io) "PA1/USART2_RTS/ADC12_IN1/TIM2_CH2", 25 PA2 (io) "PA2/USART2_TX/ADC12_IN2/TIM2_CH3", 26 PA3 (io) "PA3/USART2_RX/ADC12_IN3/TIM2_CH4", 29 PA4 (io) "PA4/SPI1_NSS/USART2_CK/ADC12_IN4", 30 PA5 (io) "PA5/SPI1_SCK/ADC12_IN5", 31 PA6 (io) "PA6/SPI1_MISO/ADC12_IN6/TIM3_CH1/TIM1_BKIN", 32 PA7 (io) "PA7/SPI1_MOSI/ADC12_IN7/TIM3_CH2/TIM1_CH1N", 33 PC4 (io) "PC4/ADC12_IN14", 34 PC5 (io) "PC5/ADC12_IN15", 35 PB0 (io) "PB0/ADC12_IN8/TIM3_CH3/TIM1_CH2N", 36 PB1 (io) "PB1/ADC12_IN9/TIM3_CH4/TIM1_CH3N", 37 PB2 (io) "PB2/BOOT1", 38 PE7 (io) "PE7/TIM1_ETR", 39 PE8 (io) "PE8/TIM1_CH1N", 40 PE9 (io) "PE9/TIM1_CH1", 41 PE10 (io) "PE10/TIM1_CH2N", 42 PE11 (io) "PE11/TIM1_CH2", 43 PE12 (io) "PE12/TIM1_CH3N", 44 PE13 (io) "PE13/TIM1_CH3", 45 PE14 (io) "PE14/TIM1_CH4", 46 PE15 (io) "PE15/TIM1_BKIN", 47 PB10 (io) "PB10/I2C2_SCL/USART3_TX/TIM2_CH3", 48 PB11 (io) "PB11/I2C2_SDA/USART3_RX/TIM2_CH4", 51 PB12 (io) "PB12/SPI2_NSS/I2C2_SMBAl/USART3_CK/TIM1_BKIN", 52 PB13 (io) "PB13/SPI2_SCK/USART3_CTS/TIM1_CH1N", 53 PB14 (io) "PB14/SPI2_MISO/USART3_RTS/TIM1_CH2N", 54 PB15 (io) "PB15/SPI2_MOSI/TIM1_CH3N", 55 PD8 (io) "PD8/USART3_TX", 56 PD9 (io) "PD9/USART3_RX", 57 PD10 (io) "PD10/USART3_CK", 58 PD11 (io) "PD11/USART3_CTS", 59 PD12 (io) "PD12/TIM4_CH1/USART3_RTS", 60 PD13 (io) "PD13/TIM4_CH2", 61 PD14 (io) "PD14/TIM4_CH3", 62 PD15 (io) "PD15/TIM4_CH4", 63 PC6 (io) "PC6/TIM3_CH1", 64 PC7 (io) "PC7/TIM3_CH2", 65 PC8 (io) "PC8/TIM3_CH3", 66 PC9 (io) "PC9/TIM3_CH4", 67 PA8 (io) "PA8/USART1_CK/TIM1_CH1/MCO", 68 PA9 (io) "PA9/USART1_TX/TIM1_CH2", 69 PA10 (io) "PA10/USART1_RX/TIM1_CH3", 70 PA11 (io) "PA11/USART1_CTS/CANRX/USBDM/TIM1_CH4", 71 PA12 (io) "PA12/USART1_RTS/CANTX/USBDP/TIM1_ETR", 72 PA13 (io) "PA13/JTMS/SWDIO", 73 NC, 76 PA14 (io) "PA14/JTCK/SWCLK", 77 PA15 (io) "PA15/JTDI/TIM2_CH1_ETR/SPI1_NSS", 78 PC10 (io) "PC10/USART3_TX", 79 PC11 (io) "PC11/USART3_RX", 80 PC12 (io) "PC12/USART3_CK", 81 PD0 (io) "PD0/CANRX", 82 PD1 (io) "PD1/CANTX", 83 PD2 (io) "PD2/TIM3_ETR", 84 PD3 (io) "PD3/USART2_CTS", 85 PD4 (io) "PD4/USART2_RTS", 86 PD5 (io) "PD5/USART2_TX", 87 PD6 (io) "PD6/USART2_RX", 88 PD7 (io) "PD7/USART2_CK", 89 PB3 (io) "PB3/JTDO/TIM2_CH2/TRACESWO/SPI1_SCK", 90 PB4 (io) "PB4/NJTRST/TIM3_CH1/SPI1_MISO", 91 PB5 (io) "PB5/I2C1_SMBAI/TIM3_CH2/SPI1_MOSI", 92 PB6 (io) "PB6/I2C1_SCL/TIM4_CH1/USART1_TX", 93 PB7 (io) "PB7/I2C1_SDA/TIM4_CH2/USART1_RX", 94 BOOT0 (in), 95 PB8 (io) "PB8/TIM4_CH3/I2C1_SCL/CANRX", 96 PB9 (io) "PB9/TIM4_CH4/I2C1_SDA/CANTX", 97 PE0 (io) "PE0/TIM4_ETR", 98 PE1 (io)
part B pins: 6 VBAT (power), 10 VSS_5 (power), 11 VDD_5 (power), 19 VSSA (power), 20 VREF- (power), 21 VREF+ (power), 22 VDDA (power), 27 VSS_4 (power), 28 VDD_4 (power), 49 VSS_1 (power), 50 VDD_1 (power), 74 VSS_2 (power), 75 VDD_2 (power), 99 VSS_3 (power), 100 VDD_3 (power)

## STM32F103VBT7
designator U?
ARM Cortex-M3 32-bit MCU, 128 KB Flash, 20 KB Internal RAM, 80 I/Os, 100-pin LQFP, -40 to 105 degC, Tray; PartNumber: STM32F103VBT7; A/D Converter: 2x12-bit (16 channel); FLASH Size (Prog) (kB): 128; I/Os (High Current): 80; Internal RAM Size (kB): 20; Operating Frequency(F) (Processor speed) (MHz): 72; Supply Voltage(Vcc) min (V): 2; DatasheetVersion: Rev. 16; PackageVersion: Rev. 1, 06/2013; PackageReference: LQFP100; PackageDescription: 100-Pin Low Profile Quad Flat Package, 14 x 14 mm Body, 0.5 mm Pitch; Supplier 1: Digi-Key; Supplier Part Number 1: 497-11536-ND; Supplier 2: Farnell; Supplier Part Number 2: 2333180; Supplier 3: Newark; Supplier Part Number 3: 99W9799; Supplier 4: Mouser; Supplier Part Number 4: 511-STM32F103VBT7; Core: ARM Cortex-M3; Packing: Tray; Mounting Technology: Surface Mount; ComponentLink1Description: Manufacturer URL; ComponentLink1URL: http://www.st.com/web/en/home.html; ComponentLink2Description: Datasheet; ComponentLink2URL: http://www.st.com/st-web-ui/static/active/en/resource/technical/document/datasheet/CD00161566.pdf; ComponentLink3Description: Package Specification; ComponentLink3URL: http://www.st.com/st-web-ui/static/active/en/resource/technical/document/data_brief/DM00071938.pdf
footprint STM-LQFP100_N (Thin QFP, 100-Leads, Body 14x14mm, Pitch 0.5mm, IPC Medium Density)
footprint STM-LQFP100_L (Thin QFP, 100-Leads, Body 14x14mm, Pitch 0.5mm, IPC High Density)
footprint STM-LQFP100_M (Thin QFP, 100-Leads, Body 14x14mm, Pitch 0.5mm, IPC Low Density)
footprint STM-LQFP100_V (Thin QFP, 100-Leads, Body 14x14mm, Pitch 0.5mm, ST Recommended)
part A pins: 1 PE2 (io) "PE2/TRACECK", 2 PE3 (io) "PE3/TRACED0", 3 PE4 (io) "PE4/TRACED1", 4 PE5 (io) "PE5/TRACED2", 5 PE6 (io) "PE6/TRACED3", 7 PC13-TAMPER-RTC (io) "PC13-TAMPER-RTC/PC13/TAMPER-RTC", 8 PC14-OSC32_IN (io) "PC14-OSC32_IN/PC14/OSC32_IN", 9 PC15-OSC32_OUT (io) "PC15-OSC32_OUT/PC15/OSC32_OUT", 12 OSC_IN (in), 13 OSC_OUT, 14 NRST (io), 15 PC0 (io) "PC0/ADC12_IN10", 16 PC1 (io) "PC1/ADC12_IN11", 17 PC2 (io) "PC2/ADC12_IN12", 18 PC3 (io) "PC3/ADC12_IN13", 23 PA0-WKUP (io) "PA0-WKUP/PA0/WKUP/USART2_CTS/ADC12_IN0/TIM2_CH1_ETR", 24 PA1 (io) "PA1/USART2_RTS/ADC12_IN1/TIM2_CH2", 25 PA2 (io) "PA2/USART2_TX/ADC12_IN2/TIM2_CH3", 26 PA3 (io) "PA3/USART2_RX/ADC12_IN3/TIM2_CH4", 29 PA4 (io) "PA4/SPI1_NSS/USART2_CK/ADC12_IN4", 30 PA5 (io) "PA5/SPI1_SCK/ADC12_IN5", 31 PA6 (io) "PA6/SPI1_MISO/ADC12_IN6/TIM3_CH1/TIM1_BKIN", 32 PA7 (io) "PA7/SPI1_MOSI/ADC12_IN7/TIM3_CH2/TIM1_CH1N", 33 PC4 (io) "PC4/ADC12_IN14", 34 PC5 (io) "PC5/ADC12_IN15", 35 PB0 (io) "PB0/ADC12_IN8/TIM3_CH3/TIM1_CH2N", 36 PB1 (io) "PB1/ADC12_IN9/TIM3_CH4/TIM1_CH3N", 37 PB2 (io) "PB2/BOOT1", 38 PE7 (io) "PE7/TIM1_ETR", 39 PE8 (io) "PE8/TIM1_CH1N", 40 PE9 (io) "PE9/TIM1_CH1", 41 PE10 (io) "PE10/TIM1_CH2N", 42 PE11 (io) "PE11/TIM1_CH2", 43 PE12 (io) "PE12/TIM1_CH3N", 44 PE13 (io) "PE13/TIM1_CH3", 45 PE14 (io) "PE14/TIM1_CH4", 46 PE15 (io) "PE15/TIM1_BKIN", 47 PB10 (io) "PB10/I2C2_SCL/USART3_TX/TIM2_CH3", 48 PB11 (io) "PB11/I2C2_SDA/USART3_RX/TIM2_CH4", 51 PB12 (io) "PB12/SPI2_NSS/I2C2_SMBAl/USART3_CK/TIM1_BKIN", 52 PB13 (io) "PB13/SPI2_SCK/USART3_CTS/TIM1_CH1N", 53 PB14 (io) "PB14/SPI2_MISO/USART3_RTS/TIM1_CH2N", 54 PB15 (io) "PB15/SPI2_MOSI/TIM1_CH3N", 55 PD8 (io) "PD8/USART3_TX", 56 PD9 (io) "PD9/USART3_RX", 57 PD10 (io) "PD10/USART3_CK", 58 PD11 (io) "PD11/USART3_CTS", 59 PD12 (io) "PD12/TIM4_CH1/USART3_RTS", 60 PD13 (io) "PD13/TIM4_CH2", 61 PD14 (io) "PD14/TIM4_CH3", 62 PD15 (io) "PD15/TIM4_CH4", 63 PC6 (io) "PC6/TIM3_CH1", 64 PC7 (io) "PC7/TIM3_CH2", 65 PC8 (io) "PC8/TIM3_CH3", 66 PC9 (io) "PC9/TIM3_CH4", 67 PA8 (io) "PA8/USART1_CK/TIM1_CH1/MCO", 68 PA9 (io) "PA9/USART1_TX/TIM1_CH2", 69 PA10 (io) "PA10/USART1_RX/TIM1_CH3", 70 PA11 (io) "PA11/USART1_CTS/CANRX/USBDM/TIM1_CH4", 71 PA12 (io) "PA12/USART1_RTS/CANTX/USBDP/TIM1_ETR", 72 PA13 (io) "PA13/JTMS/SWDIO", 73 NC, 76 PA14 (io) "PA14/JTCK/SWCLK", 77 PA15 (io) "PA15/JTDI/TIM2_CH1_ETR/SPI1_NSS", 78 PC10 (io) "PC10/USART3_TX", 79 PC11 (io) "PC11/USART3_RX", 80 PC12 (io) "PC12/USART3_CK", 81 PD0 (io) "PD0/CANRX", 82 PD1 (io) "PD1/CANTX", 83 PD2 (io) "PD2/TIM3_ETR", 84 PD3 (io) "PD3/USART2_CTS", 85 PD4 (io) "PD4/USART2_RTS", 86 PD5 (io) "PD5/USART2_TX", 87 PD6 (io) "PD6/USART2_RX", 88 PD7 (io) "PD7/USART2_CK", 89 PB3 (io) "PB3/JTDO/TIM2_CH2/TRACESWO/SPI1_SCK", 90 PB4 (io) "PB4/NJTRST/TIM3_CH1/SPI1_MISO", 91 PB5 (io) "PB5/I2C1_SMBAI/TIM3_CH2/SPI1_MOSI", 92 PB6 (io) "PB6/I2C1_SCL/TIM4_CH1/USART1_TX", 93 PB7 (io) "PB7/I2C1_SDA/TIM4_CH2/USART1_RX", 94 BOOT0 (in), 95 PB8 (io) "PB8/TIM4_CH3/I2C1_SCL/CANRX", 96 PB9 (io) "PB9/TIM4_CH4/I2C1_SDA/CANTX", 97 PE0 (io) "PE0/TIM4_ETR", 98 PE1 (io)
part B pins: 6 VBAT (power), 10 VSS_5 (power), 11 VDD_5 (power), 19 VSSA (power), 20 VREF- (power), 21 VREF+ (power), 22 VDDA (power), 27 VSS_4 (power), 28 VDD_4 (power), 49 VSS_1 (power), 50 VDD_1 (power), 74 VSS_2 (power), 75 VDD_2 (power), 99 VSS_3 (power), 100 VDD_3 (power)

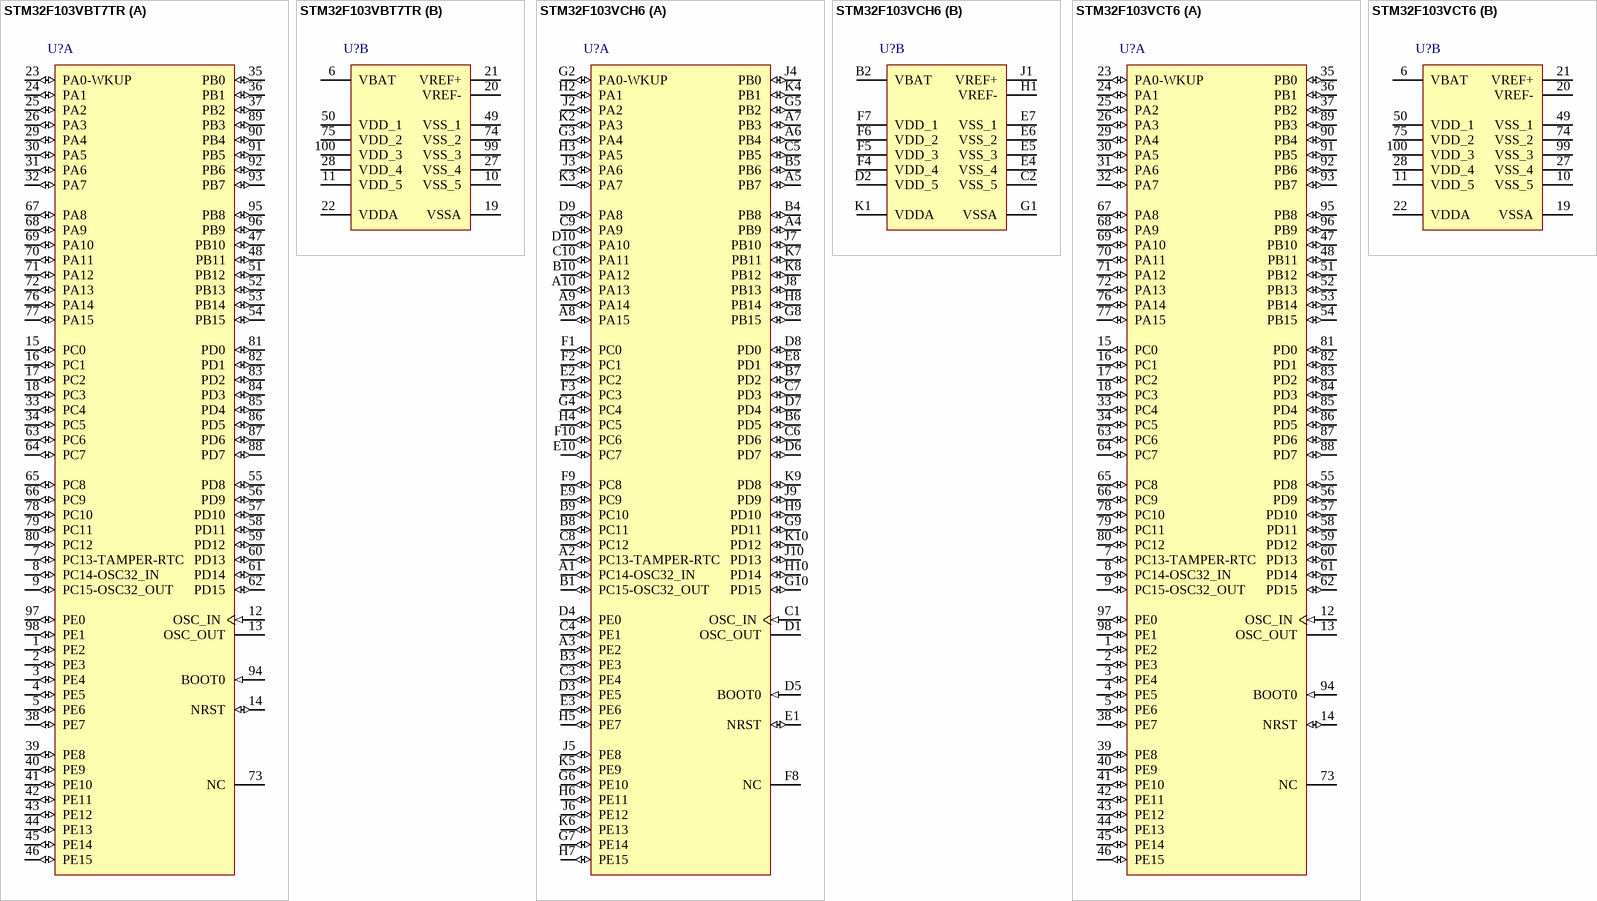
[diagram p27: symbols STM32F103VBT7TR to STM32F103VCT6]

## STM32F103VBT7TR
designator U?
ARM Cortex-M3 32-bit MCU, 128 KB Flash, 20 KB Internal RAM, 80 I/Os, 100-pin LQFP, -40 to 105 degC, Tape and Reel; PartNumber: STM32F103VBT7TR; A/D Converter: 2x12-bit (16 channel); FLASH Size (Prog) (kB): 128; I/Os (High Current): 80; Internal RAM Size (kB): 20; Operating Frequency(F) (Processor speed) (MHz): 72; Supply Voltage(Vcc) min (V): 2; DatasheetVersion: Rev. 16; PackageVersion: Rev. 1, 06/2013; PackageReference: LQFP100; PackageDescription: 100-Pin Low Profile Quad Flat Package, 14 x 14 mm Body, 0.5 mm Pitch; Supplier 1: Digi-Key; Supplier Part Number 1: STM32F103VBT7TR-ND; Supplier 2: Mouser; Supplier Part Number 2: 511-STM32F103VBT7TR; Core: ARM Cortex-M3; Packing: Tape and Reel; Mounting Technology: Surface Mount; ComponentLink1Description: Manufacturer URL; ComponentLink1URL: http://www.st.com/web/en/home.html; ComponentLink2Description: Datasheet; ComponentLink2URL: http://www.st.com/st-web-ui/static/active/en/resource/technical/document/datasheet/CD00161566.pdf; ComponentLink3Description: Package Specification; ComponentLink3URL: http://www.st.com/st-web-ui/static/active/en/resource/technical/document/data_brief/DM00071938.pdf
footprint STM-LQFP100_N (Thin QFP, 100-Leads, Body 14x14mm, Pitch 0.5mm, IPC Medium Density)
footprint STM-LQFP100_L (Thin QFP, 100-Leads, Body 14x14mm, Pitch 0.5mm, IPC High Density)
footprint STM-LQFP100_M (Thin QFP, 100-Leads, Body 14x14mm, Pitch 0.5mm, IPC Low Density)
footprint STM-LQFP100_V (Thin QFP, 100-Leads, Body 14x14mm, Pitch 0.5mm, ST Recommended)
part A pins: 1 PE2 (io) "PE2/TRACECK", 2 PE3 (io) "PE3/TRACED0", 3 PE4 (io) "PE4/TRACED1", 4 PE5 (io) "PE5/TRACED2", 5 PE6 (io) "PE6/TRACED3", 7 PC13-TAMPER-RTC (io) "PC13-TAMPER-RTC/PC13/TAMPER-RTC", 8 PC14-OSC32_IN (io) "PC14-OSC32_IN/PC14/OSC32_IN", 9 PC15-OSC32_OUT (io) "PC15-OSC32_OUT/PC15/OSC32_OUT", 12 OSC_IN (in), 13 OSC_OUT, 14 NRST (io), 15 PC0 (io) "PC0/ADC12_IN10", 16 PC1 (io) "PC1/ADC12_IN11", 17 PC2 (io) "PC2/ADC12_IN12", 18 PC3 (io) "PC3/ADC12_IN13", 23 PA0-WKUP (io) "PA0-WKUP/PA0/WKUP/USART2_CTS/ADC12_IN0/TIM2_CH1_ETR", 24 PA1 (io) "PA1/USART2_RTS/ADC12_IN1/TIM2_CH2", 25 PA2 (io) "PA2/USART2_TX/ADC12_IN2/TIM2_CH3", 26 PA3 (io) "PA3/USART2_RX/ADC12_IN3/TIM2_CH4", 29 PA4 (io) "PA4/SPI1_NSS/USART2_CK/ADC12_IN4", 30 PA5 (io) "PA5/SPI1_SCK/ADC12_IN5", 31 PA6 (io) "PA6/SPI1_MISO/ADC12_IN6/TIM3_CH1/TIM1_BKIN", 32 PA7 (io) "PA7/SPI1_MOSI/ADC12_IN7/TIM3_CH2/TIM1_CH1N", 33 PC4 (io) "PC4/ADC12_IN14", 34 PC5 (io) "PC5/ADC12_IN15", 35 PB0 (io) "PB0/ADC12_IN8/TIM3_CH3/TIM1_CH2N", 36 PB1 (io) "PB1/ADC12_IN9/TIM3_CH4/TIM1_CH3N", 37 PB2 (io) "PB2/BOOT1", 38 PE7 (io) "PE7/TIM1_ETR", 39 PE8 (io) "PE8/TIM1_CH1N", 40 PE9 (io) "PE9/TIM1_CH1", 41 PE10 (io) "PE10/TIM1_CH2N", 42 PE11 (io) "PE11/TIM1_CH2", 43 PE12 (io) "PE12/TIM1_CH3N", 44 PE13 (io) "PE13/TIM1_CH3", 45 PE14 (io) "PE14/TIM1_CH4", 46 PE15 (io) "PE15/TIM1_BKIN", 47 PB10 (io) "PB10/I2C2_SCL/USART3_TX/TIM2_CH3", 48 PB11 (io) "PB11/I2C2_SDA/USART3_RX/TIM2_CH4", 51 PB12 (io) "PB12/SPI2_NSS/I2C2_SMBAl/USART3_CK/TIM1_BKIN", 52 PB13 (io) "PB13/SPI2_SCK/USART3_CTS/TIM1_CH1N", 53 PB14 (io) "PB14/SPI2_MISO/USART3_RTS/TIM1_CH2N", 54 PB15 (io) "PB15/SPI2_MOSI/TIM1_CH3N", 55 PD8 (io) "PD8/USART3_TX", 56 PD9 (io) "PD9/USART3_RX", 57 PD10 (io) "PD10/USART3_CK", 58 PD11 (io) "PD11/USART3_CTS", 59 PD12 (io) "PD12/TIM4_CH1/USART3_RTS", 60 PD13 (io) "PD13/TIM4_CH2", 61 PD14 (io) "PD14/TIM4_CH3", 62 PD15 (io) "PD15/TIM4_CH4", 63 PC6 (io) "PC6/TIM3_CH1", 64 PC7 (io) "PC7/TIM3_CH2", 65 PC8 (io) "PC8/TIM3_CH3", 66 PC9 (io) "PC9/TIM3_CH4", 67 PA8 (io) "PA8/USART1_CK/TIM1_CH1/MCO", 68 PA9 (io) "PA9/USART1_TX/TIM1_CH2", 69 PA10 (io) "PA10/USART1_RX/TIM1_CH3", 70 PA11 (io) "PA11/USART1_CTS/CANRX/USBDM/TIM1_CH4", 71 PA12 (io) "PA12/USART1_RTS/CANTX/USBDP/TIM1_ETR", 72 PA13 (io) "PA13/JTMS/SWDIO", 73 NC, 76 PA14 (io) "PA14/JTCK/SWCLK", 77 PA15 (io) "PA15/JTDI/TIM2_CH1_ETR/SPI1_NSS", 78 PC10 (io) "PC10/USART3_TX", 79 PC11 (io) "PC11/USART3_RX", 80 PC12 (io) "PC12/USART3_CK", 81 PD0 (io) "PD0/CANRX", 82 PD1 (io) "PD1/CANTX", 83 PD2 (io) "PD2/TIM3_ETR", 84 PD3 (io) "PD3/USART2_CTS", 85 PD4 (io) "PD4/USART2_RTS", 86 PD5 (io) "PD5/USART2_TX", 87 PD6 (io) "PD6/USART2_RX", 88 PD7 (io) "PD7/USART2_CK", 89 PB3 (io) "PB3/JTDO/TIM2_CH2/TRACESWO/SPI1_SCK", 90 PB4 (io) "PB4/NJTRST/TIM3_CH1/SPI1_MISO", 91 PB5 (io) "PB5/I2C1_SMBAI/TIM3_CH2/SPI1_MOSI", 92 PB6 (io) "PB6/I2C1_SCL/TIM4_CH1/USART1_TX", 93 PB7 (io) "PB7/I2C1_SDA/TIM4_CH2/USART1_RX", 94 BOOT0 (in), 95 PB8 (io) "PB8/TIM4_CH3/I2C1_SCL/CANRX", 96 PB9 (io) "PB9/TIM4_CH4/I2C1_SDA/CANTX", 97 PE0 (io) "PE0/TIM4_ETR", 98 PE1 (io)
part B pins: 6 VBAT (power), 10 VSS_5 (power), 11 VDD_5 (power), 19 VSSA (power), 20 VREF- (power), 21 VREF+ (power), 22 VDDA (power), 27 VSS_4 (power), 28 VDD_4 (power), 49 VSS_1 (power), 50 VDD_1 (power), 74 VSS_2 (power), 75 VDD_2 (power), 99 VSS_3 (power), 100 VDD_3 (power)

## STM32F103VCH6
designator U?
ARM Cortex-M3 32-bit MCU, 256 KB Flash, 48 KB Internal RAM, 80 I/Os, 100-pin LFBGA, -40 to 85 degC, Tray; PartNumber: STM32F103VCH6; A/D Converter: 3x12-bit (16 Channel); D/A Converter: 2x12-bit (2 Channel); FLASH Size (Prog) (kB): 256; I/Os (High Current): 80; Internal RAM Size (kB): 48; Operating Frequency(F) (Processor speed) (MHz): 72; Supply Voltage(Vcc) min (V): 2; DatasheetVersion: Rev. 8; PackageVersion: Rev. 8, 04/2011; PackageReference: LFBGA100; PackageDescription: 100-Ball Low Profile Fine Pitch BGA, 10 x 10 x 1.7 mm Body, 0.8 mm Pitch; Supplier 1: Digi-Key; Supplier Part Number 1: 497-11537-ND; Supplier 2: Farnell; Supplier Part Number 2: 2333182; Supplier 3: Newark; Supplier Part Number 3: 99W9800; Supplier 4: Mouser; Supplier Part Number 4: 511-STM32F103VCH6; Core: ARM Cortex-M3; Packing: Tray; Mounting Technology: Surface Mount; ComponentLink1Description: Manufacturer URL; ComponentLink1URL: http://www.st.com/web/en/home.html; ComponentLink2Description: Datasheet; ComponentLink2URL: http://www.st.com/st-web-ui/static/active/en/resource/technical/document/datasheet/CD00191185.pdf; ComponentLink3Description: Package Specification; ComponentLink3URL: http://www.st.com/st-web-ui/static/active/en/resource/technical/document/datasheet/CD00191185.pdf
footprint STM-LFBGA100 (BGA, 100-Balls, Body 10x10mm, Pitch 0.8mm)
part A pins: A1 PC14-OSC32_IN (io) "PC14-OSC32_IN/PC14/OSC32_IN", A2 PC13-TAMPER-RTC (io) "PC13-TAMPER-RTC/PC13/TAMPER-RTC", A3 PE2 (io) "PE2/TRACECK/FSMC_A23", A4 PB9 (io) "PB9/TIM4_CH4/SDIO_D5/I2C1_SDA/CAN_TX", A5 PB7 (io) "PB7/I2C1_SDA/FSMC_NADV/TIM4_CH2/USART1_RX", A6 PB4 (io) "PB4/NJTRST/SPI3_MISO/TIM3_CH1/SPI1_MISO", A7 PB3 (io) "PB3/JTDO/SPI3_SCK/I2S3_CK/TRACESWO/TIM2_CH2/SPI1_SCK", A8 PA15 (io) "PA15/JTDI/SPI3_NSS/I2S3_WS/TIM2_CH1_ETR/SPI1_NSS", A9 PA14 (io) "PA14/JTCK-SWCLK", A10 PA13 (io) "PA13/JTMS-SWDIO", B1 PC15-OSC32_OUT (io) "PC15-OSC32_OUT/PC15/OSC32_OUT", B3 PE3 (io) "PE3/TRACED0/FSMC_A19", B4 PB8 (io) "PB8/TIM4_CH3/SDIO_D4/I2C1_SCL/CAN_RX", B5 PB6 (io) "PB6/I2C1_SCL/TIM4_CH1/USART1_TX", B6 PD5 (io) "PD5/FSMC_NWE/USART2_TX", B7 PD2 (io) "PD2/TIM3_ETR/UART5_RX/SDIO_CMD", B8 PC11 (io) "PC11/UART4_RX/SDIO_D3/USART3_RX", B9 PC10 (io) "PC10/UART4_TX/SDIO_D2/USART3_TX", B10 PA12 (io) "PA12/USART1_RTS/USBDP/CAN_TX/TIM1_ETR", C1 OSC_IN (in), C3 PE4 (io) "PE4/TRACED1/FSMC_A20", C4 PE1 (io) "PE1/FSMC_NBL1", C5 PB5 (io) "PB5/I2C1_SMBA/SPI3_MOSI/I2S3_SD/TIM3_CH2/SPI1_MOSI", C6 PD6 (io) "PD6/FSMC_NWAIT/USART2_RX", C7 PD3 (io) "PD3/FSMC_CLK/USART2_CTS", C8 PC12 (io) "PC12/UART5_TX/SDIO_CK/USART3_CK", C9 PA9 (io) "PA9/USART1_TX/TIM1_CH2", C10 PA11 (io) "PA11/USART1_CTS/USBDM/CAN_RX/TIM1_CH4", D1 OSC_OUT, D3 PE5 (io) "PE5/TRACED2/FSMC_A21", D4 PE0 (io) "PE0/TIM4_ETR/FSMC_NBL0", D5 BOOT0 (in), D6 PD7 (io) "PD7/FSMC_NE1/FSMC_NCE2/USART2_CK", D7 PD4 (io) "PD4/FSMC_NOE/USART2_RTS", D8 PD0 (io) "PD0/OSC_IN/FSMC_D2/CAN_RX", D9 PA8 (io) "PA8/USART1_CK/TIM1_CH1/MCO", D10 PA10 (io) "PA10/USART1_RX/TIM1_CH3", E1 NRST (io), E2 PC2 (io) "PC2/ADC123_IN12", E3 PE6 (io) "PE6/TRACED3/FSMC_A22", E8 PD1 (io) "PD1/OSC_OUT/FSMC_D3/CAN_TX", E9 PC9 (io) "PC9/TIM8_CH4/SDIO_D1/TIM3_CH4", E10 PC7 (io) "PC7/I2S3_MCK/TIM8_CH2/SDIO_D7/TIM3_CH2", F1 PC0 (io) "PC0/ADC123_IN10", F2 PC1 (io) "PC1/ADC123_IN11", F3 PC3 (io) "PC3/ADC123_IN13", F8 NC, F9 PC8 (io) "PC8/TIM8_CH3/SDIO_D0/TIM3_CH3", F10 PC6 (io) "PC6/I2S2_MCK/TIM8_CH1/SDIO_D6/TIM3_CH1", G2 PA0-WKUP (io) "PA0-WKUP/PA0/WKUP/USART2_CTS/ADC123_IN0/TIM2_CH1_ETR/TIM5_CH1/TIM8_ETR", G3 PA4 (io) "PA4/SPI1_NSS/USART2_CK/DAC_OUT1/ADC12_IN4", G4 PC4 (io) "PC4/ADC12_IN14", G5 PB2 (io) "PB2/BOOT1", G6 PE10 (io) "PE10/FSMC_D7/TIM1_CH2N", G7 PE14 (io) "PE14/FSMC_D11/TIM1_CH4", G8 PB15 (io) "PB15/SPI2_MOSI/I2S2_SD/TIM1_CH3N", G9 PD11 (io) "PD11/FSMC_A16/USART3_CTS", G10 PD15 (io) "PD15/FSMC_D1/TIM4_CH4", H2 PA1 (io) "PA1/USART2_RTS/ADC123_IN1/TIM5_CH2/TIM2_CH2", H3 PA5 (io) "PA5/SPI1_SCK/DAC_OUT2/ADC12_IN5", H4 PC5 (io) "PC5/ADC12_IN15", H5 PE7 (io) "PE7/FSMC_D4/TIM1_ETR", H6 PE11 (io) "PE11/FSMC_D8/TIM1_CH2", H7 PE15 (io) "PE15/FSMC_D12/TIM1_BKIN", H8 PB14 (io) "PB14/SPI2_MISO/TIM1_CH2N/USART3_RTS", H9 PD10 (io) "PD10/FSMC_D15/USART3_CK", H10 PD14 (io) "PD14/FSMC_D0/TIM4_CH3", J2 PA2 (io) "PA2/USART2_TX/TIM5_CH3/ADC123_IN2/TIM2_CH3", J3 PA6 (io) "PA6/SPI1_MISO/TIM8_BKIN/ADC12_IN6/TIM3_CH1/TIM1_BKIN", J4 PB0 (io) "PB0/ADC12_IN8/TIM3_CH3/TIM8_CH2N/TIM1_CH2N", J5 PE8 (io) "PE8/FSMC_D5/TIM1_CH1N", J6 PE12 (io) "PE12/FSMC_D9/TIM1_CH3N", J7 PB10 (io) "PB10/I2C2_SCL/USART3_TX/TIM2_CH3", J8 PB13 (io) "PB13/SPI2_SCK/I2S2_CK/USART3_CTS/TIM1_CH1N", J9 PD9 (io) "PD9/FSMC_D14/USART3_RX", J10 PD13 (io) "PD13/FSMC_A18/TIM4_CH2", K2 PA3 (io) "PA3/USART2_RX/TIM5_CH4/ADC123_IN3/TIM2_CH4", K3 PA7 (io) "PA7/SPI1_MOSI/TIM8_CH1N/ADC12_IN7/TIM3_CH2/TIM1_CH1N", K4 PB1 (io) "PB1/ADC12_IN9/TIM3_CH4/TIM8_CH3N/TIM1_CH3N", K5 PE9 (io) "PE9/FSMC_D6/TIM1_CH1", K6 PE13 (io) "PE13/FSMC_D10/TIM1_CH3", K7 PB11 (io) "PB11/I2C2_SDA/USART3_RX/TIM2_CH4", K8 PB12 (io) "PB12/SPI2_NSS/I2S2_WS/I2C2_SMBA/USART3_CK/TIM1_BKIN", K9 PD8 (io) "PD8/FSMC_D13/USART3_TX", K10 PD12 (io) "PD12/FSMC_A17/TIM4_CH1/USART3_RTS"
part B pins: B2 VBAT (power), C2 VSS_5 (power), D2 VDD_5 (power), E4 VSS_4 (power), E5 VSS_3 (power), E6 VSS_2 (power), E7 VSS_1 (power), F4 VDD_4 (power), F5 VDD_3 (power), F6 VDD_2 (power), F7 VDD_1 (power), G1 VSSA (power), H1 VREF- (power), J1 VREF+ (power), K1 VDDA (power)

## STM32F103VCT6
designator U?
ARM Cortex-M3 32-bit MCU, 256 KB Flash, 48 KB Internal RAM, 80 I/Os, 100-pin LQFP, -40 to 85 degC, Tray; PartNumber: STM32F103VCT6; A/D Converter: 3x12-bit (16 Channel); D/A Converter: 2x12-bit (2 Channel); FLASH Size (Prog) (kB): 256; I/Os (High Current): 80; Internal RAM Size (kB): 48; Operating Frequency(F) (Processor speed) (MHz): 72; Supply Voltage(Vcc) min (V): 2; DatasheetVersion: Rev. 8; PackageVersion: Rev. 1, 06/2013; PackageReference: LQFP100; PackageDescription: 100-Pin Low Profile Quad Flat Package, 14 x 14 mm Body, 0.5 mm Pitch; Supplier 1: Digi-Key; Supplier Part Number 1: 497-9034-ND; Supplier 2: Farnell; Supplier Part Number 2: 1624139; Supplier 3: Newark; Supplier Part Number 3: 57P1255; Supplier 4: Mouser; Supplier Part Number 4: 511-STM32F103VCT6; Core: ARM Cortex-M3; Packing: Tray; Mounting Technology: Surface Mount; ComponentLink1Description: Manufacturer URL; ComponentLink1URL: http://www.st.com/web/en/home.html; ComponentLink2Description: Datasheet; ComponentLink2URL: http://www.st.com/st-web-ui/static/active/en/resource/technical/document/datasheet/CD00191185.pdf; ComponentLink3Description: Package Specification; ComponentLink3URL: http://www.st.com/st-web-ui/static/active/en/resource/technical/document/data_brief/DM00071938.pdf
footprint STM-LQFP100_N (Thin QFP, 100-Leads, Body 14x14mm, Pitch 0.5mm, IPC Medium Density)
footprint STM-LQFP100_L (Thin QFP, 100-Leads, Body 14x14mm, Pitch 0.5mm, IPC High Density)
footprint STM-LQFP100_M (Thin QFP, 100-Leads, Body 14x14mm, Pitch 0.5mm, IPC Low Density)
footprint STM-LQFP100_V (Thin QFP, 100-Leads, Body 14x14mm, Pitch 0.5mm, ST Recommended)
part A pins: 1 PE2 (io) "PE2/TRACECK/FSMC_A23", 2 PE3 (io) "PE3/TRACED0/FSMC_A19", 3 PE4 (io) "PE4/TRACED1/FSMC_A20", 4 PE5 (io) "PE5/TRACED2/FSMC_A21", 5 PE6 (io) "PE6/TRACED3/FSMC_A22", 7 PC13-TAMPER-RTC (io) "PC13-TAMPER-RTC/PC13/TAMPER-RTC", 8 PC14-OSC32_IN (io) "PC14-OSC32_IN/PC14/OSC32_IN", 9 PC15-OSC32_OUT (io) "PC15-OSC32_OUT/PC15/OSC32_OUT", 12 OSC_IN (in), 13 OSC_OUT, 14 NRST (io), 15 PC0 (io) "PC0/ADC123_IN10", 16 PC1 (io) "PC1/ADC123_IN11", 17 PC2 (io) "PC2/ADC123_IN12", 18 PC3 (io) "PC3/ADC123_IN13", 23 PA0-WKUP (io) "PA0-WKUP/PA0/WKUP/USART2_CTS/ADC123_IN0/TIM2_CH1_ETR/TIM5_CH1/TIM8_ETR", 24 PA1 (io) "PA1/USART2_RTS/ADC123_IN1/TIM5_CH2/TIM2_CH2", 25 PA2 (io) "PA2/USART2_TX/TIM5_CH3/ADC123_IN2/TIM2_CH3", 26 PA3 (io) "PA3/USART2_RX/TIM5_CH4/ADC123_IN3/TIM2_CH4", 29 PA4 (io) "PA4/SPI1_NSS/USART2_CK/DAC_OUT1/ADC12_IN4", 30 PA5 (io) "PA5/SPI1_SCK/DAC_OUT2/ADC12_IN5", 31 PA6 (io) "PA6/SPI1_MISO/TIM8_BKIN/ADC12_IN6/TIM3_CH1/TIM1_BKIN", 32 PA7 (io) "PA7/SPI1_MOSI/TIM8_CH1N/ADC12_IN7/TIM3_CH2/TIM1_CH1N", 33 PC4 (io) "PC4/ADC12_IN14", 34 PC5 (io) "PC5/ADC12_IN15", 35 PB0 (io) "PB0/ADC12_IN8/TIM3_CH3/TIM8_CH2N/TIM1_CH2N", 36 PB1 (io) "PB1/ADC12_IN9/TIM3_CH4/TIM8_CH3N/TIM1_CH3N", 37 PB2 (io) "PB2/BOOT1", 38 PE7 (io) "PE7/FSMC_D4/TIM1_ETR", 39 PE8 (io) "PE8/FSMC_D5/TIM1_CH1N", 40 PE9 (io) "PE9/FSMC_D6/TIM1_CH1", 41 PE10 (io) "PE10/FSMC_D7/TIM1_CH2N", 42 PE11 (io) "PE11/FSMC_D8/TIM1_CH2", 43 PE12 (io) "PE12/FSMC_D9/TIM1_CH3N", 44 PE13 (io) "PE13/FSMC_D10/TIM1_CH3", 45 PE14 (io) "PE14/FSMC_D11/TIM1_CH4", 46 PE15 (io) "PE15/FSMC_D12/TIM1_BKIN", 47 PB10 (io) "PB10/I2C2_SCL/USART3_TX/TIM2_CH3", 48 PB11 (io) "PB11/I2C2_SDA/USART3_RX/TIM2_CH4", 51 PB12 (io) "PB12/SPI2_NSS/I2S2_WS/I2C2_SMBA/USART3_CK/TIM1_BKIN", 52 PB13 (io) "PB13/SPI2_SCK/I2S2_CK/USART3_CTS/TIM1_CH1N", 53 PB14 (io) "PB14/SPI2_MISO/TIM1_CH2N/USART3_RTS", 54 PB15 (io) "PB15/SPI2_MOSI/I2S2_SD/TIM1_CH3N", 55 PD8 (io) "PD8/FSMC_D13/USART3_TX", 56 PD9 (io) "PD9/FSMC_D14/USART3_RX", 57 PD10 (io) "PD10/FSMC_D15/USART3_CK", 58 PD11 (io) "PD11/FSMC_A16/USART3_CTS", 59 PD12 (io) "PD12/FSMC_A17/TIM4_CH1/USART3_RTS", 60 PD13 (io) "PD13/FSMC_A18/TIM4_CH2", 61 PD14 (io) "PD14/FSMC_D0/TIM4_CH3", 62 PD15 (io) "PD15/FSMC_D1/TIM4_CH4", 63 PC6 (io) "PC6/I2S2_MCK/TIM8_CH1/SDIO_D6/TIM3_CH1", 64 PC7 (io) "PC7/I2S3_MCK/TIM8_CH2/SDIO_D7/TIM3_CH2", 65 PC8 (io) "PC8/TIM8_CH3/SDIO_D0/TIM3_CH3", 66 PC9 (io) "PC9/TIM8_CH4/SDIO_D1/TIM3_CH4", 67 PA8 (io) "PA8/USART1_CK/TIM1_CH1/MCO", 68 PA9 (io) "PA9/USART1_TX/TIM1_CH2", 69 PA10 (io) "PA10/USART1_RX/TIM1_CH3", 70 PA11 (io) "PA11/USART1_CTS/USBDM/CAN_RX/TIM1_CH4", 71 PA12 (io) "PA12/USART1_RTS/USBDP/CAN_TX/TIM1_ETR", 72 PA13 (io) "PA13/JTMS-SWDIO", 73 NC, 76 PA14 (io) "PA14/JTCK-SWCLK", 77 PA15 (io) "PA15/JTDI/SPI3_NSS/I2S3_WS/TIM2_CH1_ETR/SPI1_NSS", 78 PC10 (io) "PC10/UART4_TX/SDIO_D2/USART3_TX", 79 PC11 (io) "PC11/UART4_RX/SDIO_D3/USART3_RX", 80 PC12 (io) "PC12/UART5_TX/SDIO_CK/USART3_CK", 81 PD0 (io) "PD0/OSC_IN/FSMC_D2/CAN_RX", 82 PD1 (io) "PD1/OSC_OUT/FSMC_D3/CAN_TX", 83 PD2 (io) "PD2/TIM3_ETR/UART5_RX/SDIO_CMD", 84 PD3 (io) "PD3/FSMC_CLK/USART2_CTS", 85 PD4 (io) "PD4/FSMC_NOE/USART2_RTS", 86 PD5 (io) "PD5/FSMC_NWE/USART2_TX", 87 PD6 (io) "PD6/FSMC_NWAIT/USART2_RX", 88 PD7 (io) "PD7/FSMC_NE1/FSMC_NCE2/USART2_CK", 89 PB3 (io) "PB3/JTDO/SPI3_SCK/I2S3_CK/TRACESWO/TIM2_CH2/SPI1_SCK", 90 PB4 (io) "PB4/NJTRST/SPI3_MISO/TIM3_CH1/SPI1_MISO", 91 PB5 (io) "PB5/I2C1_SMBA/SPI3_MOSI/I2S3_SD/TIM3_CH2/SPI1_MOSI", 92 PB6 (io) "PB6/I2C1_SCL/TIM4_CH1/USART1_TX", 93 PB7 (io) "PB7/I2C1_SDA/FSMC_NADV/TIM4_CH2/USART1_RX", 94 BOOT0 (in), 95 PB8 (io) "PB8/TIM4_CH3/SDIO_D4/I2C1_SCL/CAN_RX", 96 PB9 (io) "PB9/TIM4_CH4/SDIO_D5/I2C1_SDA/CAN_TX", 97 PE0 (io) "PE0/TIM4_ETR/FSMC_NBL0", 98 PE1 (io) "PE1/FSMC_NBL1"
part B pins: 6 VBAT (power), 10 VSS_5 (power), 11 VDD_5 (power), 19 VSSA (power), 20 VREF- (power), 21 VREF+ (power), 22 VDDA (power), 27 VSS_4 (power), 28 VDD_4 (power), 49 VSS_1 (power), 50 VDD_1 (power), 74 VSS_2 (power), 75 VDD_2 (power), 99 VSS_3 (power), 100 VDD_3 (power)

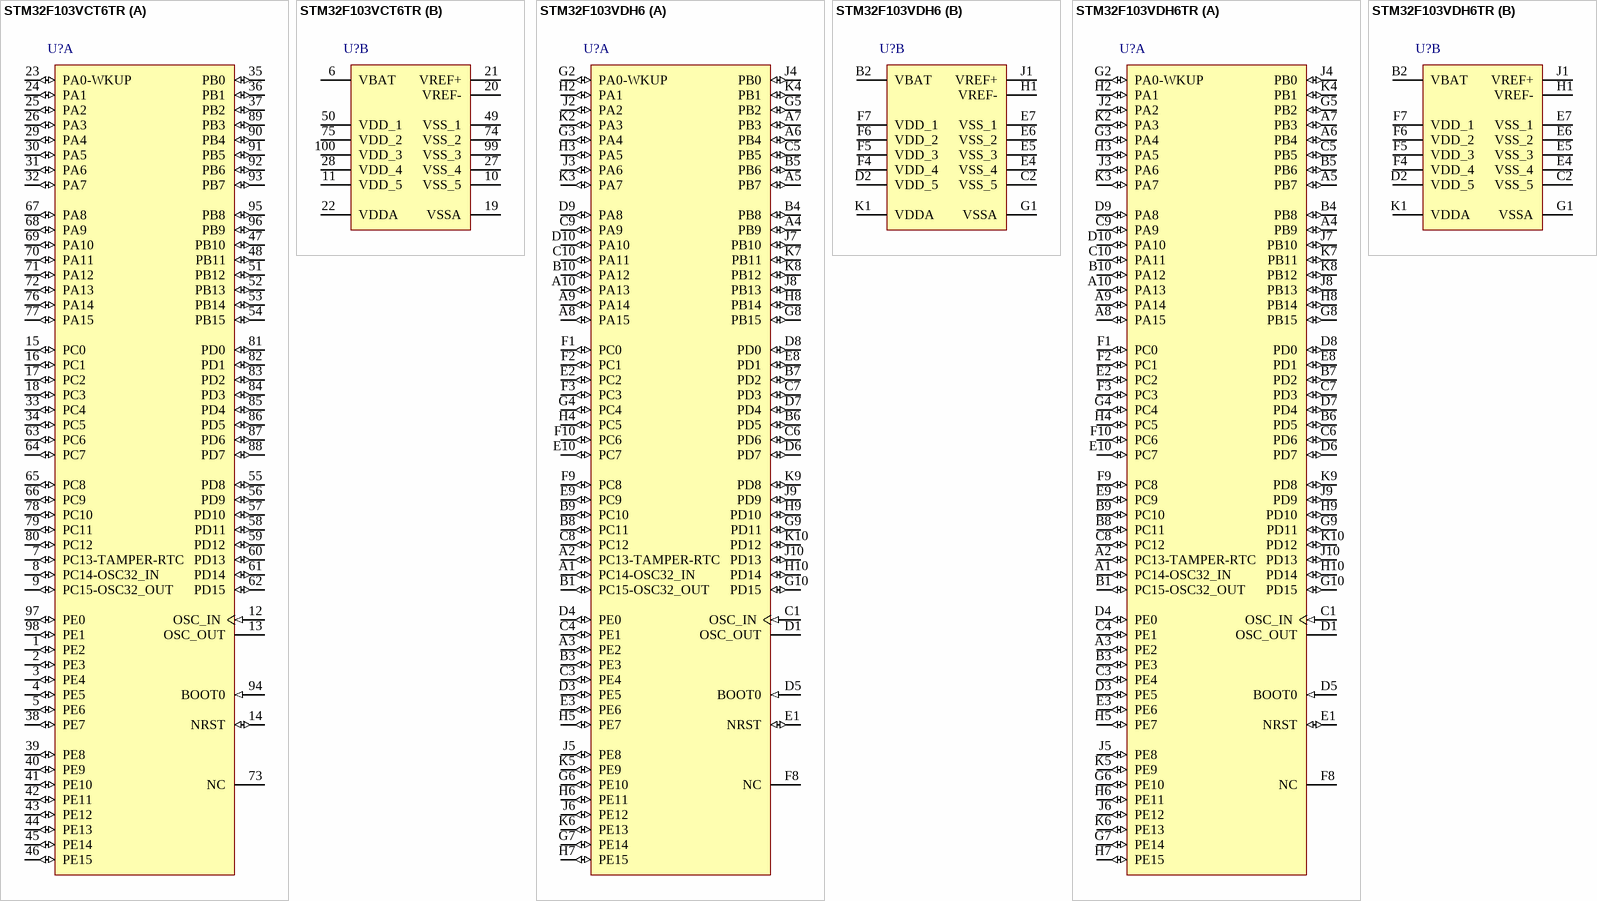
[diagram p28: symbols STM32F103VCT6TR to STM32F103VDH6TR]